# Altium integrated library NXP LPC2000.IntLib: 82 symbols (part 3 of 6)
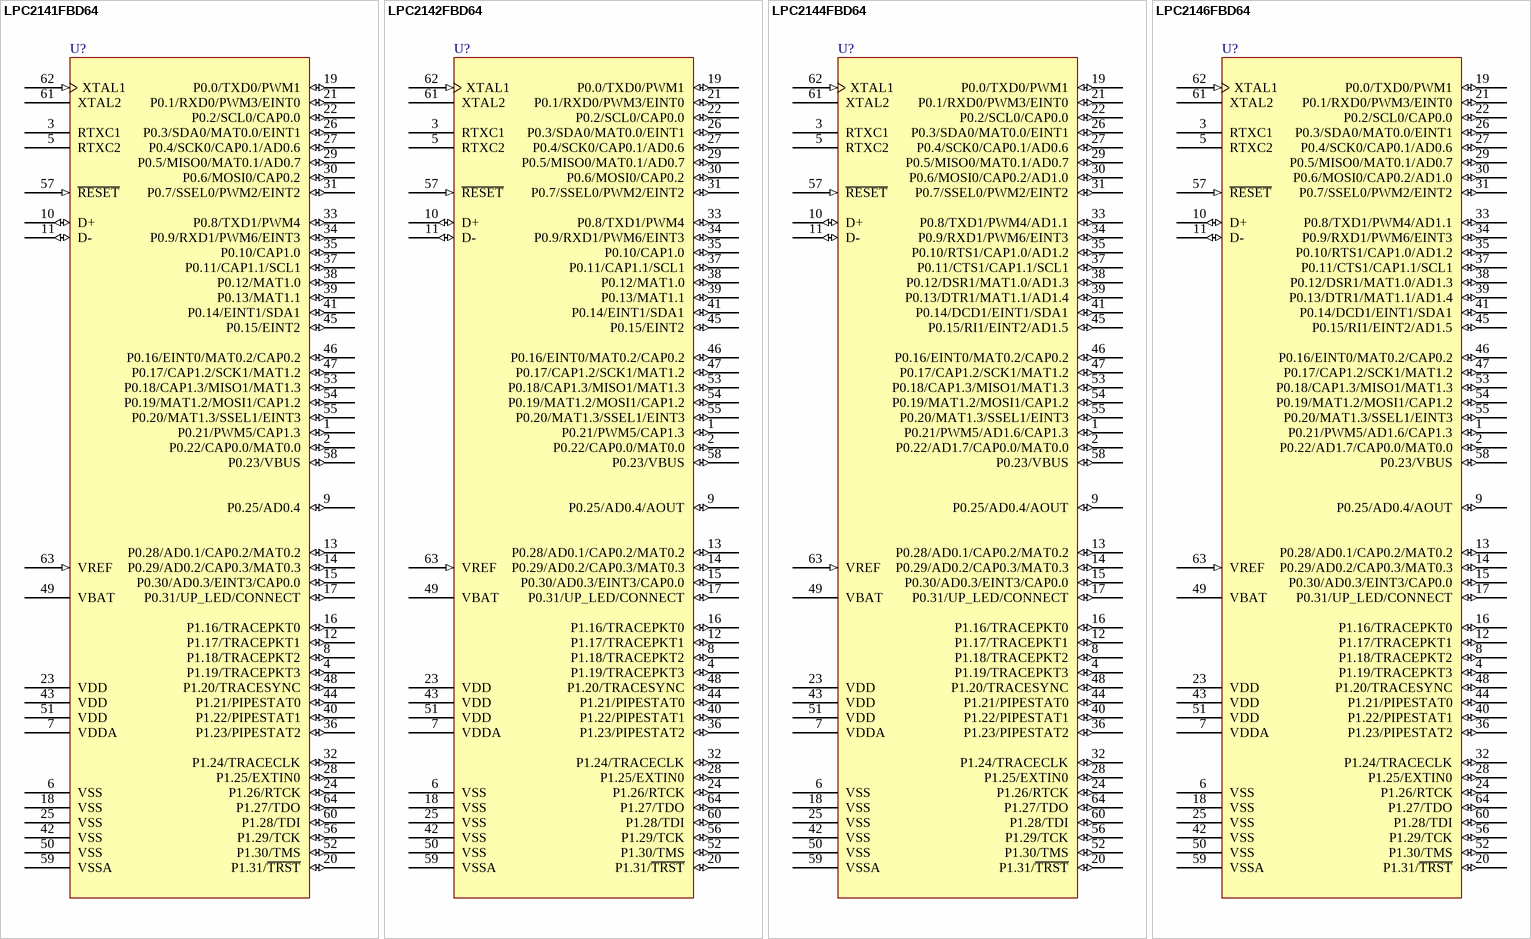
[diagram p31: symbols LPC2141FBD64 to LPC2146FBD64]

## LPC2142FBD64
designator U?
ARM7 16/32-Bit Microcontroller, 64KB Flash, 16KB RAM, 2KB USB RAM, 64-Lead LQFP; Code_IEC: 136E10; Published: 31-Jul-2006; DatasheetVersion: rev.02, Aug-2006; PackageVersion: Feb-2003; PackageReference: SOT314-2; Publisher: Altium Limited; PackageDescription: 64-Pin Plastic Low Profile Quad Flat Pack; Code_JEDEC: MS-026; ComponentLink1Description: Manufacturer Link; ComponentLink1URL: http://www.nxp.com/; ComponentLink2Description: Datasheet; ComponentLink2URL: http://www.standardics.nxp.com/products/lpc2000/datasheet/lpc2141.lpc2142.lpc2144.lpc2146.lpc2148.pdf
footprint SOT314-2_N (Thin QFP, 64-Leads, Body 10x10mm, Pitch 0.5mm, IPC Medium Density)
footprint SOT314-2_L (Thin QFP, 64-Leads, Body 10x10mm, Pitch 0.5mm, IPC High Density)
footprint SOT314-2_M (Thin QFP, 64-Leads, Body 10x10mm, Pitch 0.5mm, IPC Low Density)
3D model LPC2142-QFP64 (64-Pin Plastic Low Profile Quad Flat Pack)
pins: 1 P0.21/PWM5/CAP1.3 (io), 2 P0.22/CAP0.0/MAT0.0 (io), 3 RTXC1, 4 P1.19/TRACEPKT3 (io), 5 RTXC2, 6 VSS (power), 7 VDDA (power), 8 P1.18/TRACEPKT2 (io), 9 P0.25/AD0.4/AOUT (io), 10 D+ (io), 11 D- (io), 12 P1.17/TRACEPKT1 (io), 13 P0.28/AD0.1/CAP0.2/MAT0.2 (io), 14 P0.29/AD0.2/CAP0.3/MAT0.3 (io), 15 P0.30/AD0.3/EINT3/CAP0.0 (io), 16 P1.16/TRACEPKT0 (io), 17 P0.31/UP_LED/CONNECT (io), 18 VSS (power), 19 P0.0/TXD0/PWM1 (io), 20 P1.31/~{TRST} (io), 21 P0.1/RXD0/PWM3/EINT0 (io), 22 P0.2/SCL0/CAP0.0 (io), 23 VDD (power), 24 P1.26/RTCK (io), 25 VSS (power), 26 P0.3/SDA0/MAT0.0/EINT1 (io), 27 P0.4/SCK0/CAP0.1/AD0.6 (io), 28 P1.25/EXTIN0 (io), 29 P0.5/MISO0/MAT0.1/AD0.7 (io), 30 P0.6/MOSI0/CAP0.2 (io), 31 P0.7/SSEL0/PWM2/EINT2 (io), 32 P1.24/TRACECLK (io), 33 P0.8/TXD1/PWM4 (io), 34 P0.9/RXD1/PWM6/EINT3 (io), 35 P0.10/CAP1.0 (io), 36 P1.23/PIPESTAT2 (io), 37 P0.11/CAP1.1/SCL1 (io), 38 P0.12/MAT1.0 (io), 39 P0.13/MAT1.1 (io), 40 P1.22/PIPESTAT1 (io), 41 P0.14/EINT1/SDA1 (io), 42 VSS (power), 43 VDD (power), 44 P1.21/PIPESTAT0 (io), 45 P0.15/EINT2 (io), 46 P0.16/EINT0/MAT0.2/CAP0.2 (io), 47 P0.17/CAP1.2/SCK1/MAT1.2 (io), 48 P1.20/TRACESYNC (io), 49 VBAT (power), 50 VSS (power), 51 VDD (power), 52 P1.30/TMS (io), 53 P0.18/CAP1.3/MISO1/MAT1.3 (io), 54 P0.19/MAT1.2/MOSI1/CAP1.2 (io), 55 P0.20/MAT1.3/SSEL1/EINT3 (io), 56 P1.29/TCK (io), 57 ~{RESET} (in), 58 P0.23/VBUS (io), 59 VSSA (power), 60 P1.28/TDI (io), 61 XTAL2, 62 XTAL1 (in), 63 VREF (in), 64 P1.27/TDO (io)

## LPC2144FBD64
designator U?
ARM7 16/32-Bit Microcontroller, 128KB Flash, 16KB RAM, 2KB USB RAM, 64-Lead LQFP; Code_IEC: 136E10; Published: 31-Jul-2006; DatasheetVersion: rev.02, Aug-2006; PackageVersion: Feb-2003; PackageReference: SOT314-2; Publisher: Altium Limited; PackageDescription: 64-Pin Plastic Low Profile Quad Flat Pack; Code_JEDEC: MS-026; ComponentLink1Description: Manufacturer Link; ComponentLink1URL: http://www.nxp.com/; ComponentLink2Description: Datasheet; ComponentLink2URL: http://www.standardics.nxp.com/products/lpc2000/datasheet/lpc2141.lpc2142.lpc2144.lpc2146.lpc2148.pdf
footprint SOT314-2_N (Thin QFP, 64-Leads, Body 10x10mm, Pitch 0.5mm, IPC Medium Density)
footprint SOT314-2_L (Thin QFP, 64-Leads, Body 10x10mm, Pitch 0.5mm, IPC High Density)
footprint SOT314-2_M (Thin QFP, 64-Leads, Body 10x10mm, Pitch 0.5mm, IPC Low Density)
3D model LPC2144-QFP64 (64-Pin Plastic Low Profile Quad Flat Pack)
pins: 1 P0.21/PWM5/AD1.6/CAP1.3 (io), 2 P0.22/AD1.7/CAP0.0/MAT0.0 (io), 3 RTXC1, 4 P1.19/TRACEPKT3 (io), 5 RTXC2, 6 VSS (power), 7 VDDA (power), 8 P1.18/TRACEPKT2 (io), 9 P0.25/AD0.4/AOUT (io), 10 D+ (io), 11 D- (io), 12 P1.17/TRACEPKT1 (io), 13 P0.28/AD0.1/CAP0.2/MAT0.2 (io), 14 P0.29/AD0.2/CAP0.3/MAT0.3 (io), 15 P0.30/AD0.3/EINT3/CAP0.0 (io), 16 P1.16/TRACEPKT0 (io), 17 P0.31/UP_LED/CONNECT (io), 18 VSS (power), 19 P0.0/TXD0/PWM1 (io), 20 P1.31/~{TRST} (io), 21 P0.1/RXD0/PWM3/EINT0 (io), 22 P0.2/SCL0/CAP0.0 (io), 23 VDD (power), 24 P1.26/RTCK (io), 25 VSS (power), 26 P0.3/SDA0/MAT0.0/EINT1 (io), 27 P0.4/SCK0/CAP0.1/AD0.6 (io), 28 P1.25/EXTIN0 (io), 29 P0.5/MISO0/MAT0.1/AD0.7 (io), 30 P0.6/MOSI0/CAP0.2/AD1.0 (io), 31 P0.7/SSEL0/PWM2/EINT2 (io), 32 P1.24/TRACECLK (io), 33 P0.8/TXD1/PWM4/AD1.1 (io), 34 P0.9/RXD1/PWM6/EINT3 (io), 35 P0.10/RTS1/CAP1.0/AD1.2 (io), 36 P1.23/PIPESTAT2 (io), 37 P0.11/CTS1/CAP1.1/SCL1 (io), 38 P0.12/DSR1/MAT1.0/AD1.3 (io), 39 P0.13/DTR1/MAT1.1/AD1.4 (io), 40 P1.22/PIPESTAT1 (io), 41 P0.14/DCD1/EINT1/SDA1 (io), 42 VSS (power), 43 VDD (power), 44 P1.21/PIPESTAT0 (io), 45 P0.15/RI1/EINT2/AD1.5 (io), 46 P0.16/EINT0/MAT0.2/CAP0.2 (io), 47 P0.17/CAP1.2/SCK1/MAT1.2 (io), 48 P1.20/TRACESYNC (io), 49 VBAT (power), 50 VSS (power), 51 VDD (power), 52 P1.30/TMS (io), 53 P0.18/CAP1.3/MISO1/MAT1.3 (io), 54 P0.19/MAT1.2/MOSI1/CAP1.2 (io), 55 P0.20/MAT1.3/SSEL1/EINT3 (io), 56 P1.29/TCK (io), 57 ~{RESET} (in), 58 P0.23/VBUS (io), 59 VSSA (power), 60 P1.28/TDI (io), 61 XTAL2, 62 XTAL1 (in), 63 VREF (in), 64 P1.27/TDO (io)

## LPC2146FBD64
designator U?
ARM7 16/32-Bit Microcontroller, 256KB Flash, 32KB RAM (+8KB USB DMA shared), 2KB USB RAM, 64-Lead LQFP; Code_IEC: 136E10; Published: 31-Jul-2006; DatasheetVersion: rev.02, Aug-2006; PackageVersion: Feb-2003; PackageReference: SOT314-2; Publisher: Altium Limited; PackageDescription: 64-Pin Plastic Low Profile Quad Flat Pack; Code_JEDEC: MS-026; ComponentLink1Description: Manufacturer Link; ComponentLink1URL: http://www.nxp.com/; ComponentLink2Description: Datasheet; ComponentLink2URL: http://www.standardics.nxp.com/products/lpc2000/datasheet/lpc2141.lpc2142.lpc2144.lpc2146.lpc2148.pdf
footprint SOT314-2_N (Thin QFP, 64-Leads, Body 10x10mm, Pitch 0.5mm, IPC Medium Density)
footprint SOT314-2_L (Thin QFP, 64-Leads, Body 10x10mm, Pitch 0.5mm, IPC High Density)
footprint SOT314-2_M (Thin QFP, 64-Leads, Body 10x10mm, Pitch 0.5mm, IPC Low Density)
3D model LPC2146-QFP64 (64-Pin Plastic Low Profile Quad Flat Pack)
pins: 1 P0.21/PWM5/AD1.6/CAP1.3 (io), 2 P0.22/AD1.7/CAP0.0/MAT0.0 (io), 3 RTXC1, 4 P1.19/TRACEPKT3 (io), 5 RTXC2, 6 VSS (power), 7 VDDA (power), 8 P1.18/TRACEPKT2 (io), 9 P0.25/AD0.4/AOUT (io), 10 D+ (io), 11 D- (io), 12 P1.17/TRACEPKT1 (io), 13 P0.28/AD0.1/CAP0.2/MAT0.2 (io), 14 P0.29/AD0.2/CAP0.3/MAT0.3 (io), 15 P0.30/AD0.3/EINT3/CAP0.0 (io), 16 P1.16/TRACEPKT0 (io), 17 P0.31/UP_LED/CONNECT (io), 18 VSS (power), 19 P0.0/TXD0/PWM1 (io), 20 P1.31/~{TRST} (io), 21 P0.1/RXD0/PWM3/EINT0 (io), 22 P0.2/SCL0/CAP0.0 (io), 23 VDD (power), 24 P1.26/RTCK (io), 25 VSS (power), 26 P0.3/SDA0/MAT0.0/EINT1 (io), 27 P0.4/SCK0/CAP0.1/AD0.6 (io), 28 P1.25/EXTIN0 (io), 29 P0.5/MISO0/MAT0.1/AD0.7 (io), 30 P0.6/MOSI0/CAP0.2/AD1.0 (io), 31 P0.7/SSEL0/PWM2/EINT2 (io), 32 P1.24/TRACECLK (io), 33 P0.8/TXD1/PWM4/AD1.1 (io), 34 P0.9/RXD1/PWM6/EINT3 (io), 35 P0.10/RTS1/CAP1.0/AD1.2 (io), 36 P1.23/PIPESTAT2 (io), 37 P0.11/CTS1/CAP1.1/SCL1 (io), 38 P0.12/DSR1/MAT1.0/AD1.3 (io), 39 P0.13/DTR1/MAT1.1/AD1.4 (io), 40 P1.22/PIPESTAT1 (io), 41 P0.14/DCD1/EINT1/SDA1 (io), 42 VSS (power), 43 VDD (power), 44 P1.21/PIPESTAT0 (io), 45 P0.15/RI1/EINT2/AD1.5 (io), 46 P0.16/EINT0/MAT0.2/CAP0.2 (io), 47 P0.17/CAP1.2/SCK1/MAT1.2 (io), 48 P1.20/TRACESYNC (io), 49 VBAT (power), 50 VSS (power), 51 VDD (power), 52 P1.30/TMS (io), 53 P0.18/CAP1.3/MISO1/MAT1.3 (io), 54 P0.19/MAT1.2/MOSI1/CAP1.2 (io), 55 P0.20/MAT1.3/SSEL1/EINT3 (io), 56 P1.29/TCK (io), 57 ~{RESET} (in), 58 P0.23/VBUS (io), 59 VSSA (power), 60 P1.28/TDI (io), 61 XTAL2, 62 XTAL1 (in), 63 VREF (in), 64 P1.27/TDO (io)

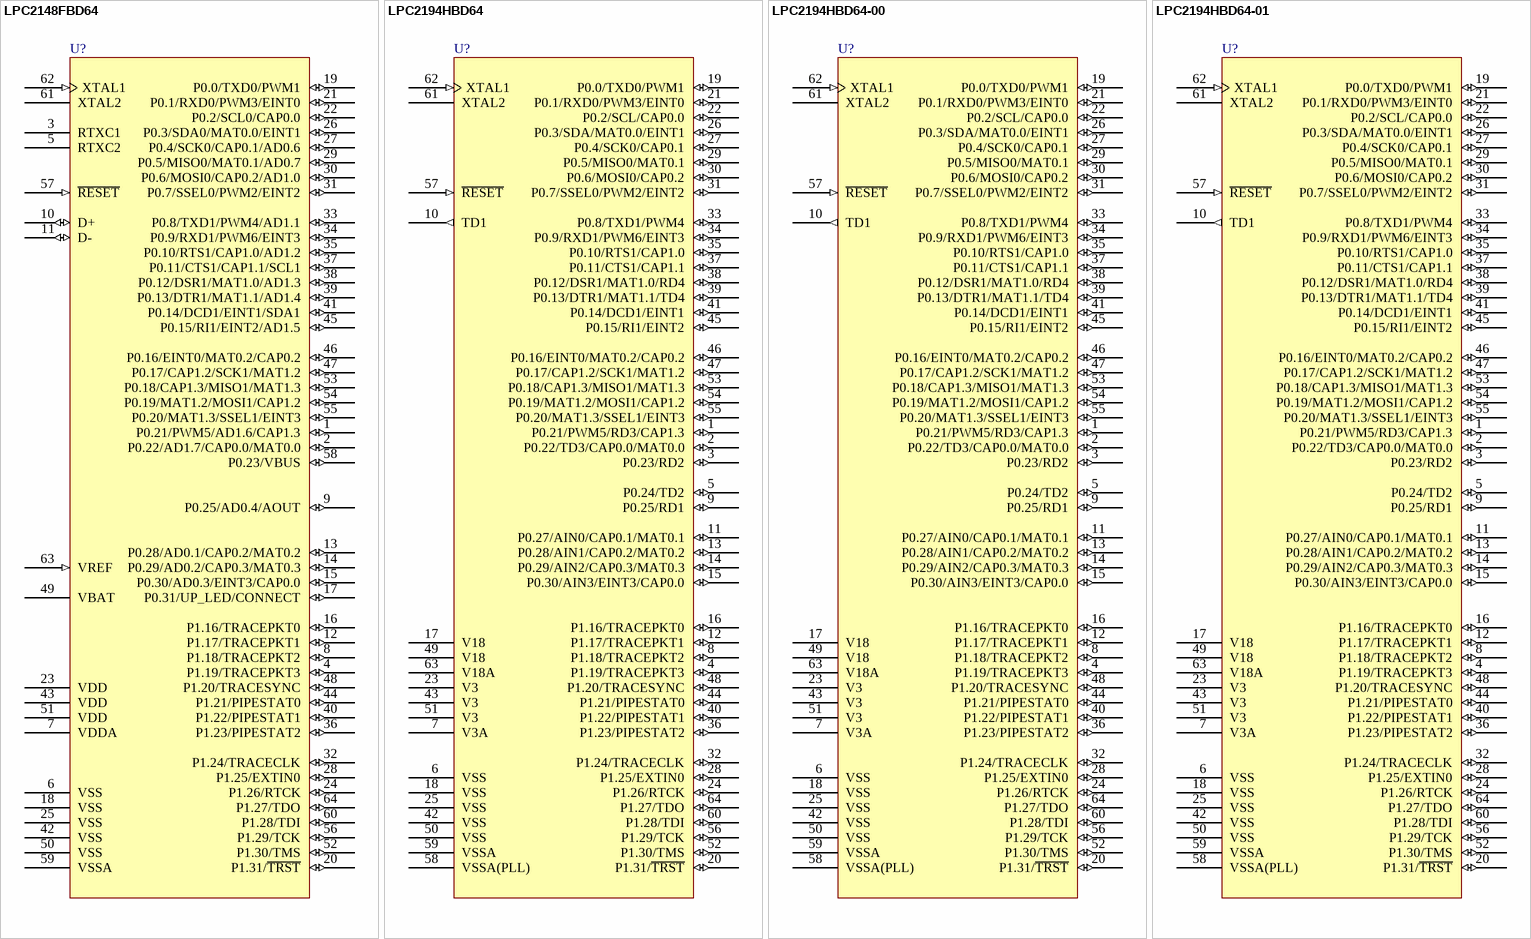
[diagram p10: symbols LPC2148FBD64 to LPC2194HBD64-01]

## LPC2148FBD64
designator U?
ARM7 16/32-Bit Microcontroller, 512KB Flash, 32KB RAM (+8KB USB DMA shared), 2KB USB RAM, 64-Lead LQFP; Code_IEC: 136E10; Published: 31-Jul-2006; DatasheetVersion: rev.02, Aug-2006; PackageVersion: Feb-2003; PackageReference: SOT314-2; Publisher: Altium Limited; PackageDescription: 64-Pin Plastic Low Profile Quad Flat Pack; Code_JEDEC: MS-026; ComponentLink1Description: Manufacturer Link; ComponentLink1URL: http://www.nxp.com/; ComponentLink2Description: Datasheet; ComponentLink2URL: http://www.standardics.nxp.com/products/lpc2000/datasheet/lpc2141.lpc2142.lpc2144.lpc2146.lpc2148.pdf
footprint SOT314-2_N (Thin QFP, 64-Leads, Body 10x10mm, Pitch 0.5mm, IPC Medium Density)
footprint SOT314-2_L (Thin QFP, 64-Leads, Body 10x10mm, Pitch 0.5mm, IPC High Density)
footprint SOT314-2_M (Thin QFP, 64-Leads, Body 10x10mm, Pitch 0.5mm, IPC Low Density)
3D model LPC2148-QFP64 (64-Pin Plastic Low Profile Quad Flat Pack)
pins: 1 P0.21/PWM5/AD1.6/CAP1.3 (io), 2 P0.22/AD1.7/CAP0.0/MAT0.0 (io), 3 RTXC1, 4 P1.19/TRACEPKT3 (io), 5 RTXC2, 6 VSS (power), 7 VDDA (power), 8 P1.18/TRACEPKT2 (io), 9 P0.25/AD0.4/AOUT (io), 10 D+ (io), 11 D- (io), 12 P1.17/TRACEPKT1 (io), 13 P0.28/AD0.1/CAP0.2/MAT0.2 (io), 14 P0.29/AD0.2/CAP0.3/MAT0.3 (io), 15 P0.30/AD0.3/EINT3/CAP0.0 (io), 16 P1.16/TRACEPKT0 (io), 17 P0.31/UP_LED/CONNECT (io), 18 VSS (power), 19 P0.0/TXD0/PWM1 (io), 20 P1.31/~{TRST} (io), 21 P0.1/RXD0/PWM3/EINT0 (io), 22 P0.2/SCL0/CAP0.0 (io), 23 VDD (power), 24 P1.26/RTCK (io), 25 VSS (power), 26 P0.3/SDA0/MAT0.0/EINT1 (io), 27 P0.4/SCK0/CAP0.1/AD0.6 (io), 28 P1.25/EXTIN0 (io), 29 P0.5/MISO0/MAT0.1/AD0.7 (io), 30 P0.6/MOSI0/CAP0.2/AD1.0 (io), 31 P0.7/SSEL0/PWM2/EINT2 (io), 32 P1.24/TRACECLK (io), 33 P0.8/TXD1/PWM4/AD1.1 (io), 34 P0.9/RXD1/PWM6/EINT3 (io), 35 P0.10/RTS1/CAP1.0/AD1.2 (io), 36 P1.23/PIPESTAT2 (io), 37 P0.11/CTS1/CAP1.1/SCL1 (io), 38 P0.12/DSR1/MAT1.0/AD1.3 (io), 39 P0.13/DTR1/MAT1.1/AD1.4 (io), 40 P1.22/PIPESTAT1 (io), 41 P0.14/DCD1/EINT1/SDA1 (io), 42 VSS (power), 43 VDD (power), 44 P1.21/PIPESTAT0 (io), 45 P0.15/RI1/EINT2/AD1.5 (io), 46 P0.16/EINT0/MAT0.2/CAP0.2 (io), 47 P0.17/CAP1.2/SCK1/MAT1.2 (io), 48 P1.20/TRACESYNC (io), 49 VBAT (power), 50 VSS (power), 51 VDD (power), 52 P1.30/TMS (io), 53 P0.18/CAP1.3/MISO1/MAT1.3 (io), 54 P0.19/MAT1.2/MOSI1/CAP1.2 (io), 55 P0.20/MAT1.3/SSEL1/EINT3 (io), 56 P1.29/TCK (io), 57 ~{RESET} (in), 58 P0.23/VBUS (io), 59 VSSA (power), 60 P1.28/TDI (io), 61 XTAL2, 62 XTAL1 (in), 63 VREF (in), 64 P1.27/TDO (io)

## LPC2194HBD64
designator U?
ARM7 16/32-Bit Microcontroller, 256KB Flash, 16KB RAM, 4 Channel CAN, 64-Lead LQFP; Code_IEC: 136E10; Published: 31-Jul-2006; DatasheetVersion: rev.05, Jul-2007; PackageVersion: Feb-2003; PackageReference: SOT314-2; Publisher: Altium Limited; PackageDescription: 64-Pin Plastic Low Profile Quad Flat Pack; Code_JEDEC: MS-026; ComponentLink1Description: Manufacturer Link; ComponentLink1URL: http://www.nxp.com/; ComponentLink2Description: Datasheet; ComponentLink2URL: http://www.standardics.nxp.com/products/lpc2000/datasheet/lpc2194.pdf
footprint SOT314-2_N (Thin QFP, 64-Leads, Body 10x10mm, Pitch 0.5mm, IPC Medium Density)
footprint SOT314-2_L (Thin QFP, 64-Leads, Body 10x10mm, Pitch 0.5mm, IPC High Density)
footprint SOT314-2_M (Thin QFP, 64-Leads, Body 10x10mm, Pitch 0.5mm, IPC Low Density)
3D model LPC2194-QFP64 (64-Pin Plastic Low Profile Quad Flat Pack)
pins: 1 P0.21/PWM5/RD3/CAP1.3 (io), 2 P0.22/TD3/CAP0.0/MAT0.0 (io), 3 P0.23/RD2 (io), 4 P1.19/TRACEPKT3 (io), 5 P0.24/TD2 (io), 6 VSS (power), 7 V3A (power), 8 P1.18/TRACEPKT2 (io), 9 P0.25/RD1 (io), 10 TD1 (out), 11 P0.27/AIN0/CAP0.1/MAT0.1 (io), 12 P1.17/TRACEPKT1 (io), 13 P0.28/AIN1/CAP0.2/MAT0.2 (io), 14 P0.29/AIN2/CAP0.3/MAT0.3 (io), 15 P0.30/AIN3/EINT3/CAP0.0 (io), 16 P1.16/TRACEPKT0 (io), 17 V18 (power), 18 VSS (power), 19 P0.0/TXD0/PWM1 (io), 20 P1.31/~{TRST} (io), 21 P0.1/RXD0/PWM3/EINT0 (io), 22 P0.2/SCL/CAP0.0 (io), 23 V3 (power), 24 P1.26/RTCK (io), 25 VSS (power), 26 P0.3/SDA/MAT0.0/EINT1 (io), 27 P0.4/SCK0/CAP0.1 (io), 28 P1.25/EXTIN0 (io), 29 P0.5/MISO0/MAT0.1 (io), 30 P0.6/MOSI0/CAP0.2 (io), 31 P0.7/SSEL0/PWM2/EINT2 (io), 32 P1.24/TRACECLK (io), 33 P0.8/TXD1/PWM4 (io), 34 P0.9/RXD1/PWM6/EINT3 (io), 35 P0.10/RTS1/CAP1.0 (io), 36 P1.23/PIPESTAT2 (io), 37 P0.11/CTS1/CAP1.1 (io), 38 P0.12/DSR1/MAT1.0/RD4 (io), 39 P0.13/DTR1/MAT1.1/TD4 (io), 40 P1.22/PIPESTAT1 (io), 41 P0.14/DCD1/EINT1 (io), 42 VSS (power), 43 V3 (power), 44 P1.21/PIPESTAT0 (io), 45 P0.15/RI1/EINT2 (io), 46 P0.16/EINT0/MAT0.2/CAP0.2 (io), 47 P0.17/CAP1.2/SCK1/MAT1.2 (io), 48 P1.20/TRACESYNC (io), 49 V18 (power), 50 VSS (power), 51 V3 (power), 52 P1.30/TMS (io), 53 P0.18/CAP1.3/MISO1/MAT1.3 (io), 54 P0.19/MAT1.2/MOSI1/CAP1.2 (io), 55 P0.20/MAT1.3/SSEL1/EINT3 (io), 56 P1.29/TCK (io), 57 ~{RESET} (in), 58 VSSA(PLL) (power), 59 VSSA (power), 60 P1.28/TDI (io), 61 XTAL2, 62 XTAL1 (in), 63 V18A (power), 64 P1.27/TDO (io)

## LPC2194HBD64-00
designator U?
ARM7 16/32-Bit Microcontroller, 256KB Flash, 16KB RAM, 4 Channel CAN, 64-Lead LQFP; Code_IEC: 136E10; Published: 16-Oct-2006; DatasheetVersion: rev.05, Jul-2007; PackageVersion: Feb-2003; PackageReference: SOT314-2; Publisher: Altium Limited; PackageDescription: 64-Pin Plastic Low Profile Quad Flat Pack; Code_JEDEC: MS-026; ComponentLink1Description: Manufacturer Link; ComponentLink1URL: http://www.nxp.com/; ComponentLink2Description: Datasheet; ComponentLink2URL: http://www.standardics.nxp.com/products/lpc2000/datasheet/lpc2194.pdf
footprint SOT314-2_N (Thin QFP, 64-Leads, Body 10x10mm, Pitch 0.5mm, IPC Medium Density)
footprint SOT314-2_L (Thin QFP, 64-Leads, Body 10x10mm, Pitch 0.5mm, IPC High Density)
footprint SOT314-2_M (Thin QFP, 64-Leads, Body 10x10mm, Pitch 0.5mm, IPC Low Density)
3D model LPC2194-QFP64 (64-Pin Plastic Low Profile Quad Flat Pack)
pins: 1 P0.21/PWM5/RD3/CAP1.3 (io), 2 P0.22/TD3/CAP0.0/MAT0.0 (io), 3 P0.23/RD2 (io), 4 P1.19/TRACEPKT3 (io), 5 P0.24/TD2 (io), 6 VSS (power), 7 V3A (power), 8 P1.18/TRACEPKT2 (io), 9 P0.25/RD1 (io), 10 TD1 (out), 11 P0.27/AIN0/CAP0.1/MAT0.1 (io), 12 P1.17/TRACEPKT1 (io), 13 P0.28/AIN1/CAP0.2/MAT0.2 (io), 14 P0.29/AIN2/CAP0.3/MAT0.3 (io), 15 P0.30/AIN3/EINT3/CAP0.0 (io), 16 P1.16/TRACEPKT0 (io), 17 V18 (power), 18 VSS (power), 19 P0.0/TXD0/PWM1 (io), 20 P1.31/~{TRST} (io), 21 P0.1/RXD0/PWM3/EINT0 (io), 22 P0.2/SCL/CAP0.0 (io), 23 V3 (power), 24 P1.26/RTCK (io), 25 VSS (power), 26 P0.3/SDA/MAT0.0/EINT1 (io), 27 P0.4/SCK0/CAP0.1 (io), 28 P1.25/EXTIN0 (io), 29 P0.5/MISO0/MAT0.1 (io), 30 P0.6/MOSI0/CAP0.2 (io), 31 P0.7/SSEL0/PWM2/EINT2 (io), 32 P1.24/TRACECLK (io), 33 P0.8/TXD1/PWM4 (io), 34 P0.9/RXD1/PWM6/EINT3 (io), 35 P0.10/RTS1/CAP1.0 (io), 36 P1.23/PIPESTAT2 (io), 37 P0.11/CTS1/CAP1.1 (io), 38 P0.12/DSR1/MAT1.0/RD4 (io), 39 P0.13/DTR1/MAT1.1/TD4 (io), 40 P1.22/PIPESTAT1 (io), 41 P0.14/DCD1/EINT1 (io), 42 VSS (power), 43 V3 (power), 44 P1.21/PIPESTAT0 (io), 45 P0.15/RI1/EINT2 (io), 46 P0.16/EINT0/MAT0.2/CAP0.2 (io), 47 P0.17/CAP1.2/SCK1/MAT1.2 (io), 48 P1.20/TRACESYNC (io), 49 V18 (power), 50 VSS (power), 51 V3 (power), 52 P1.30/TMS (io), 53 P0.18/CAP1.3/MISO1/MAT1.3 (io), 54 P0.19/MAT1.2/MOSI1/CAP1.2 (io), 55 P0.20/MAT1.3/SSEL1/EINT3 (io), 56 P1.29/TCK (io), 57 ~{RESET} (in), 58 VSSA(PLL) (power), 59 VSSA (power), 60 P1.28/TDI (io), 61 XTAL2, 62 XTAL1 (in), 63 V18A (power), 64 P1.27/TDO (io)

## LPC2194HBD64-01
designator U?
ARM7 16/32-Bit Microcontroller, 256KB Flash, 16KB RAM, 4 Channel CAN, Fast GPIO, 64-Lead LQFP; Code_IEC: 136E10; Published: 17-Aug-2007; DatasheetVersion: rev.05, Jul-2007; PackageVersion: Feb-2003; PackageReference: SOT314-2; Publisher: Altium Limited; PackageDescription: 64-Pin Plastic Low Profile Quad Flat Pack; Code_JEDEC: MS-026; ComponentLink1Description: Manufacturer Link; ComponentLink1URL: http://www.nxp.com/; ComponentLink2Description: Datasheet; ComponentLink2URL: http://www.standardics.nxp.com/products/lpc2000/datasheet/lpc2194.pdf
footprint SOT314-2_N (Thin QFP, 64-Leads, Body 10x10mm, Pitch 0.5mm, IPC Medium Density)
footprint SOT314-2_L (Thin QFP, 64-Leads, Body 10x10mm, Pitch 0.5mm, IPC High Density)
footprint SOT314-2_M (Thin QFP, 64-Leads, Body 10x10mm, Pitch 0.5mm, IPC Low Density)
3D model LPC2194-QFP64 (64-Pin Plastic Low Profile Quad Flat Pack)
pins: 1 P0.21/PWM5/RD3/CAP1.3 (io), 2 P0.22/TD3/CAP0.0/MAT0.0 (io), 3 P0.23/RD2 (io), 4 P1.19/TRACEPKT3 (io), 5 P0.24/TD2 (io), 6 VSS (power), 7 V3A (power), 8 P1.18/TRACEPKT2 (io), 9 P0.25/RD1 (io), 10 TD1 (out), 11 P0.27/AIN0/CAP0.1/MAT0.1 (io), 12 P1.17/TRACEPKT1 (io), 13 P0.28/AIN1/CAP0.2/MAT0.2 (io), 14 P0.29/AIN2/CAP0.3/MAT0.3 (io), 15 P0.30/AIN3/EINT3/CAP0.0 (io), 16 P1.16/TRACEPKT0 (io), 17 V18 (power), 18 VSS (power), 19 P0.0/TXD0/PWM1 (io), 20 P1.31/~{TRST} (io), 21 P0.1/RXD0/PWM3/EINT0 (io), 22 P0.2/SCL/CAP0.0 (io), 23 V3 (power), 24 P1.26/RTCK (io), 25 VSS (power), 26 P0.3/SDA/MAT0.0/EINT1 (io), 27 P0.4/SCK0/CAP0.1 (io), 28 P1.25/EXTIN0 (io), 29 P0.5/MISO0/MAT0.1 (io), 30 P0.6/MOSI0/CAP0.2 (io), 31 P0.7/SSEL0/PWM2/EINT2 (io), 32 P1.24/TRACECLK (io), 33 P0.8/TXD1/PWM4 (io), 34 P0.9/RXD1/PWM6/EINT3 (io), 35 P0.10/RTS1/CAP1.0 (io), 36 P1.23/PIPESTAT2 (io), 37 P0.11/CTS1/CAP1.1 (io), 38 P0.12/DSR1/MAT1.0/RD4 (io), 39 P0.13/DTR1/MAT1.1/TD4 (io), 40 P1.22/PIPESTAT1 (io), 41 P0.14/DCD1/EINT1 (io), 42 VSS (power), 43 V3 (power), 44 P1.21/PIPESTAT0 (io), 45 P0.15/RI1/EINT2 (io), 46 P0.16/EINT0/MAT0.2/CAP0.2 (io), 47 P0.17/CAP1.2/SCK1/MAT1.2 (io), 48 P1.20/TRACESYNC (io), 49 V18 (power), 50 VSS (power), 51 V3 (power), 52 P1.30/TMS (io), 53 P0.18/CAP1.3/MISO1/MAT1.3 (io), 54 P0.19/MAT1.2/MOSI1/CAP1.2 (io), 55 P0.20/MAT1.3/SSEL1/EINT3 (io), 56 P1.29/TCK (io), 57 ~{RESET} (in), 58 VSSA(PLL) (power), 59 VSSA (power), 60 P1.28/TDI (io), 61 XTAL2, 62 XTAL1 (in), 63 V18A (power), 64 P1.27/TDO (io)

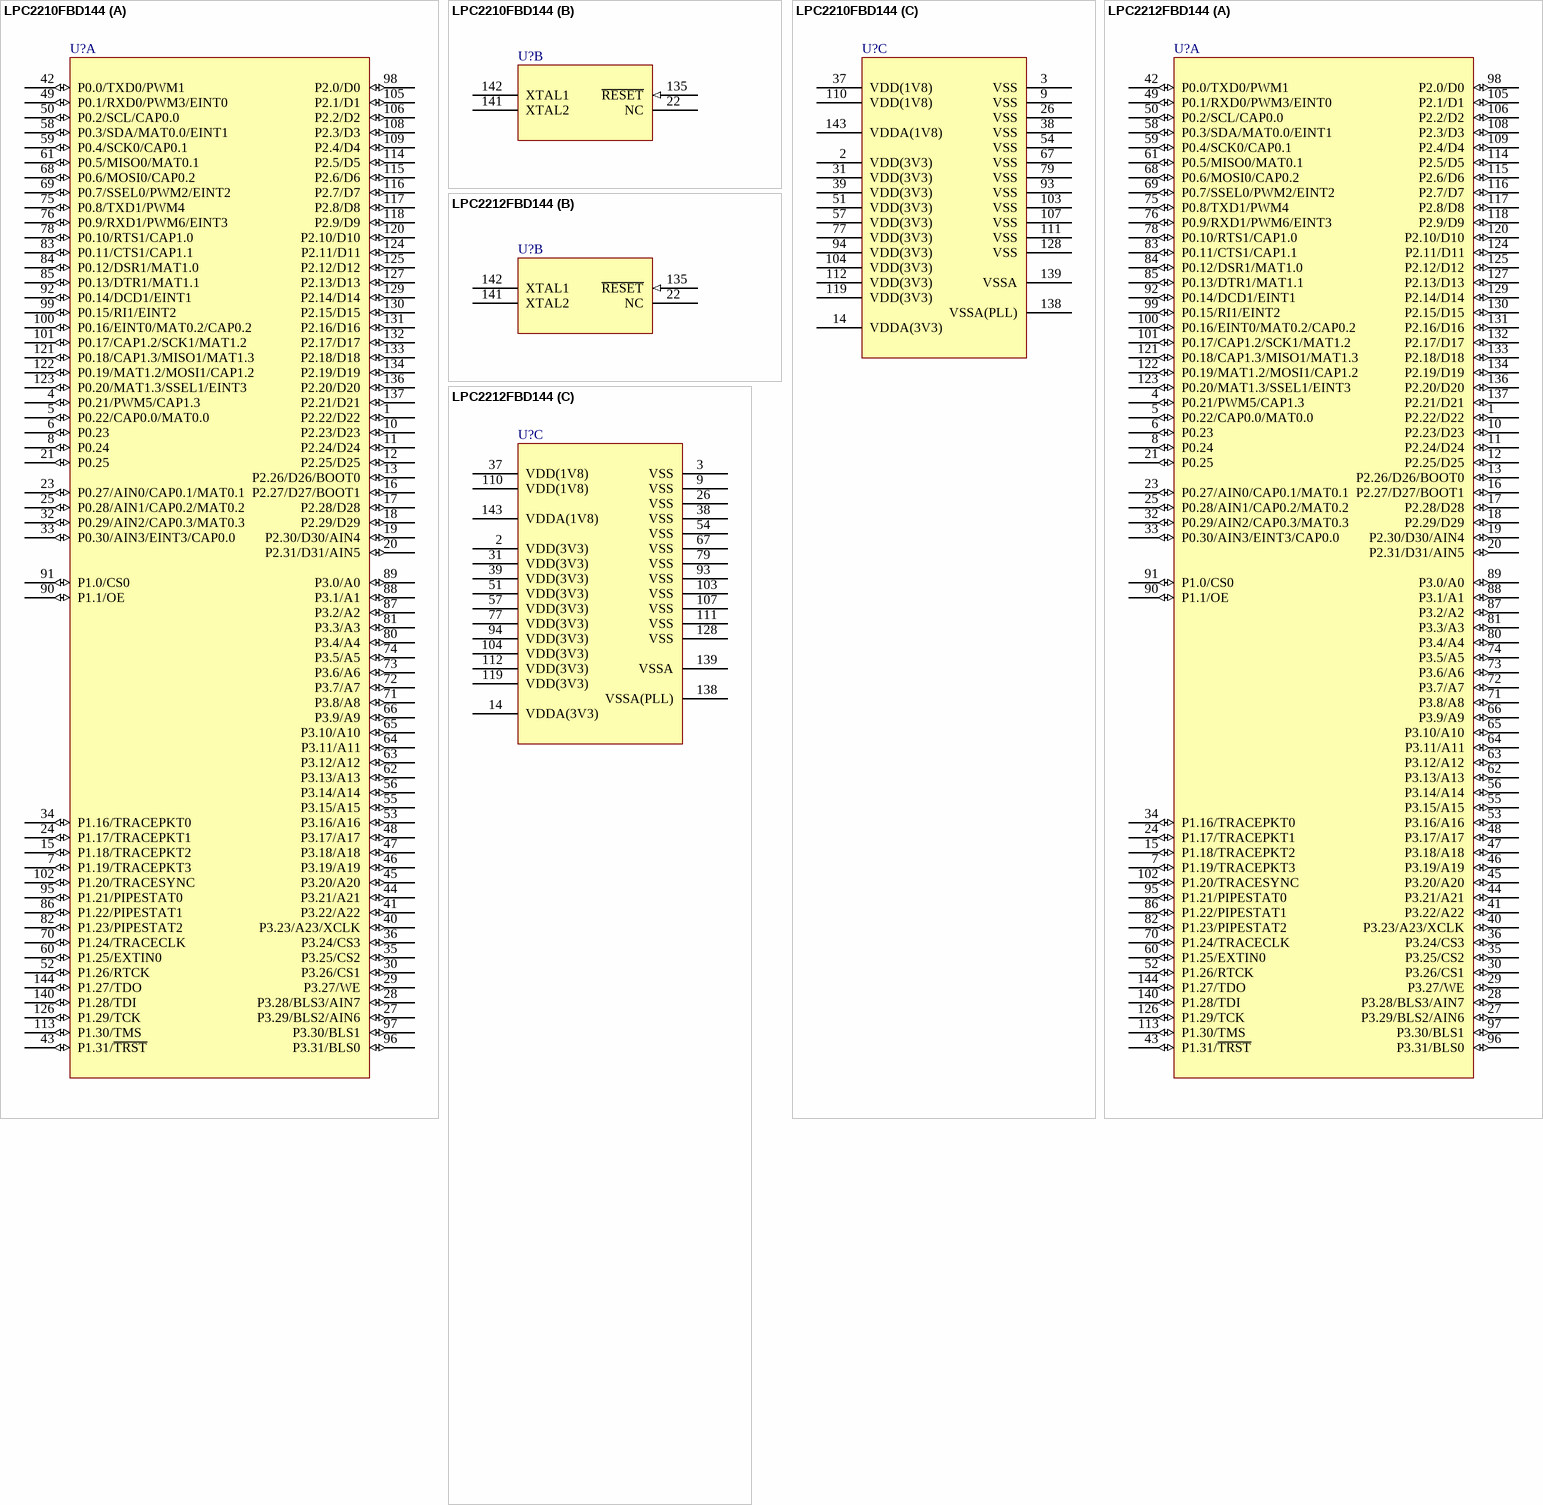
[diagram p11: symbols LPC2210FBD144 to LPC2212FBD144]

## LPC2210FBD144
designator U?
ARM7 16/32-Bit Microcontroller, 16KB RAM, 144-Lead LQFP; Code_IEC: 136E23; Published: 16-Oct-2006; DatasheetVersion: rev.03, Feb-2007; PackageVersion: Feb-2003; PackageReference: SOT486-1; Publisher: Altium Limited; PackageDescription: 144-Pin Plastic Low Profile Quad Flat Pack 0.5 mm Pitch; Code_JEDEC: MS-026; ComponentLink1Description: Manufacturer Link; ComponentLink1URL: http://www.nxp.com/; ComponentLink2Description: Datasheet; ComponentLink2URL: http://www.standardics.nxp.com/products/lpc2000/datasheet/lpc2210.lpc2220.pdf
footprint SOT486-1_N (Thin QFP, 144-Leads, Body 20x20mm, Pitch 0.5mm, IPC Medium Density)
footprint SOT486-1_L (Thin QFP, 144-Leads, Body 20x20mm, Pitch 0.5mm, IPC High Density)
footprint SOT486-1_M (Thin QFP, 144-Leads, Body 20x20mm, Pitch 0.5mm, IPC Low Density)
3D model LPC2210-QFP144 (144-Pin Plastic Low Profile Quad Flat Pack 0.5 mm Pitch)
part A pins: 1 P2.22/D22 (io), 4 P0.21/PWM5/CAP1.3 (io), 5 P0.22/CAP0.0/MAT0.0 (io), 6 P0.23 (io), 7 P1.19/TRACEPKT3 (io), 8 P0.24 (io), 10 P2.23/D23 (io), 11 P2.24/D24 (io), 12 P2.25/D25 (io), 13 P2.26/D26/BOOT0 (io), 15 P1.18/TRACEPKT2 (io), 16 P2.27/D27/BOOT1 (io), 17 P2.28/D28 (io), 18 P2.29/D29 (io), 19 P2.30/D30/AIN4 (io), 20 P2.31/D31/AIN5 (io), 21 P0.25 (io), 23 P0.27/AIN0/CAP0.1/MAT0.1 (io), 24 P1.17/TRACEPKT1 (io), 25 P0.28/AIN1/CAP0.2/MAT0.2 (io), 27 P3.29/BLS2/AIN6 (io), 28 P3.28/BLS3/AIN7 (io), 29 P3.27/WE (io), 30 P3.26/CS1 (io), 32 P0.29/AIN2/CAP0.3/MAT0.3 (io), 33 P0.30/AIN3/EINT3/CAP0.0 (io), 34 P1.16/TRACEPKT0 (io), 35 P3.25/CS2 (io), 36 P3.24/CS3 (io), 40 P3.23/A23/XCLK (io), 41 P3.22/A22 (io), 42 P0.0/TXD0/PWM1 (io), 43 P1.31/~{TRST} (io), 44 P3.21/A21 (io), 45 P3.20/A20 (io), 46 P3.19/A19 (io), 47 P3.18/A18 (io), 48 P3.17/A17 (io), 49 P0.1/RXD0/PWM3/EINT0 (io), 50 P0.2/SCL/CAP0.0 (io), 52 P1.26/RTCK (io), 53 P3.16/A16 (io), 55 P3.15/A15 (io), 56 P3.14/A14 (io), 58 P0.3/SDA/MAT0.0/EINT1 (io), 59 P0.4/SCK0/CAP0.1 (io), 60 P1.25/EXTIN0 (io), 61 P0.5/MISO0/MAT0.1 (io), 62 P3.13/A13 (io), 63 P3.12/A12 (io), 64 P3.11/A11 (io), 65 P3.10/A10 (io), 66 P3.9/A9 (io), 68 P0.6/MOSI0/CAP0.2 (io), 69 P0.7/SSEL0/PWM2/EINT2 (io), 70 P1.24/TRACECLK (io), 71 P3.8/A8 (io), 72 P3.7/A7 (io), 73 P3.6/A6 (io), 74 P3.5/A5 (io), 75 P0.8/TXD1/PWM4 (io), 76 P0.9/RXD1/PWM6/EINT3 (io), 78 P0.10/RTS1/CAP1.0 (io), 80 P3.4/A4 (io), 81 P3.3/A3 (io), 82 P1.23/PIPESTAT2 (io), 83 P0.11/CTS1/CAP1.1 (io), 84 P0.12/DSR1/MAT1.0 (io), 85 P0.13/DTR1/MAT1.1 (io), 86 P1.22/PIPESTAT1 (io), 87 P3.2/A2 (io), 88 P3.1/A1 (io), 89 P3.0/A0 (io), 90 P1.1/OE (io), 91 P1.0/CS0 (io), 92 P0.14/DCD1/EINT1 (io), 95 P1.21/PIPESTAT0 (io), 96 P3.31/BLS0 (io), 97 P3.30/BLS1 (io), 98 P2.0/D0 (io), 99 P0.15/RI1/EINT2 (io), 100 P0.16/EINT0/MAT0.2/CAP0.2 (io), 101 P0.17/CAP1.2/SCK1/MAT1.2 (io), 102 P1.20/TRACESYNC (io), 105 P2.1/D1 (io), 106 P2.2/D2 (io), 108 P2.3/D3 (io), 109 P2.4/D4 (io), 113 P1.30/TMS (io), 114 P2.5/D5 (io), 115 P2.6/D6 (io), 116 P2.7/D7 (io), 117 P2.8/D8 (io), 118 P2.9/D9 (io), 120 P2.10/D10 (io), 121 P0.18/CAP1.3/MISO1/MAT1.3 (io), 122 P0.19/MAT1.2/MOSI1/CAP1.2 (io), 123 P0.20/MAT1.3/SSEL1/EINT3 (io), 124 P2.11/D11 (io), 125 P2.12/D12 (io), 126 P1.29/TCK (io), 127 P2.13/D13 (io), 129 P2.14/D14 (io), 130 P2.15/D15 (io), 131 P2.16/D16 (io), 132 P2.17/D17 (io), 133 P2.18/D18 (io), 134 P2.19/D19 (io), 136 P2.20/D20 (io), 137 P2.21/D21 (io), 140 P1.28/TDI (io), 144 P1.27/TDO (io)
part B pins: 22 NC, 135 ~{RESET} (in), 141 XTAL2, 142 XTAL1
part C pins: 2 VDD(3V3) (power), 3 VSS (power), 9 VSS (power), 14 VDDA(3V3) (power), 26 VSS (power), 31 VDD(3V3) (power), 37 VDD(1V8) (power), 38 VSS (power), 39 VDD(3V3) (power), 51 VDD(3V3) (power), 54 VSS (power), 57 VDD(3V3) (power), 67 VSS (power), 77 VDD(3V3) (power), 79 VSS (power), 93 VSS (power), 94 VDD(3V3) (power), 103 VSS (power), 104 VDD(3V3) (power), 107 VSS (power), 110 VDD(1V8) (power), 111 VSS (power), 112 VDD(3V3) (power), 119 VDD(3V3) (power), 128 VSS (power), 138 VSSA(PLL) (power), 139 VSSA (power), 143 VDDA(1V8) (power)

## LPC2212FBD144
designator U?
ARM7 16/32-Bit Microcontroller, 128KB Flash, 16KB RAM, 144-Lead LQFP; Code_IEC: 136E23; Published: 16-Oct-2006; DatasheetVersion: rev.04, Jul-2007; PackageVersion: Feb-2003; PackageReference: SOT486-1; Publisher: Altium Limited; PackageDescription: 144-Pin Plastic Low Profile Quad Flat Pack 0.5 mm Pitch; Code_JEDEC: MS-026; ComponentLink1Description: Manufacturer Link; ComponentLink1URL: http://www.nxp.com/; ComponentLink2Description: Datasheet; ComponentLink2URL: http://www.standardics.nxp.com/products/lpc2000/datasheet/lpc2212.lpc2214.pdf
footprint SOT486-1_N (Thin QFP, 144-Leads, Body 20x20mm, Pitch 0.5mm, IPC Medium Density)
footprint SOT486-1_L (Thin QFP, 144-Leads, Body 20x20mm, Pitch 0.5mm, IPC High Density)
footprint SOT486-1_M (Thin QFP, 144-Leads, Body 20x20mm, Pitch 0.5mm, IPC Low Density)
3D model LPC2212-QFP144 (144-Pin Plastic Low Profile Quad Flat Pack 0.5 mm Pitch)
part A pins: 1 P2.22/D22 (io), 4 P0.21/PWM5/CAP1.3 (io), 5 P0.22/CAP0.0/MAT0.0 (io), 6 P0.23 (io), 7 P1.19/TRACEPKT3 (io), 8 P0.24 (io), 10 P2.23/D23 (io), 11 P2.24/D24 (io), 12 P2.25/D25 (io), 13 P2.26/D26/BOOT0 (io), 15 P1.18/TRACEPKT2 (io), 16 P2.27/D27/BOOT1 (io), 17 P2.28/D28 (io), 18 P2.29/D29 (io), 19 P2.30/D30/AIN4 (io), 20 P2.31/D31/AIN5 (io), 21 P0.25 (io), 23 P0.27/AIN0/CAP0.1/MAT0.1 (io), 24 P1.17/TRACEPKT1 (io), 25 P0.28/AIN1/CAP0.2/MAT0.2 (io), 27 P3.29/BLS2/AIN6 (io), 28 P3.28/BLS3/AIN7 (io), 29 P3.27/WE (io), 30 P3.26/CS1 (io), 32 P0.29/AIN2/CAP0.3/MAT0.3 (io), 33 P0.30/AIN3/EINT3/CAP0.0 (io), 34 P1.16/TRACEPKT0 (io), 35 P3.25/CS2 (io), 36 P3.24/CS3 (io), 40 P3.23/A23/XCLK (io), 41 P3.22/A22 (io), 42 P0.0/TXD0/PWM1 (io), 43 P1.31/~{TRST} (io), 44 P3.21/A21 (io), 45 P3.20/A20 (io), 46 P3.19/A19 (io), 47 P3.18/A18 (io), 48 P3.17/A17 (io), 49 P0.1/RXD0/PWM3/EINT0 (io), 50 P0.2/SCL/CAP0.0 (io), 52 P1.26/RTCK (io), 53 P3.16/A16 (io), 55 P3.15/A15 (io), 56 P3.14/A14 (io), 58 P0.3/SDA/MAT0.0/EINT1 (io), 59 P0.4/SCK0/CAP0.1 (io), 60 P1.25/EXTIN0 (io), 61 P0.5/MISO0/MAT0.1 (io), 62 P3.13/A13 (io), 63 P3.12/A12 (io), 64 P3.11/A11 (io), 65 P3.10/A10 (io), 66 P3.9/A9 (io), 68 P0.6/MOSI0/CAP0.2 (io), 69 P0.7/SSEL0/PWM2/EINT2 (io), 70 P1.24/TRACECLK (io), 71 P3.8/A8 (io), 72 P3.7/A7 (io), 73 P3.6/A6 (io), 74 P3.5/A5 (io), 75 P0.8/TXD1/PWM4 (io), 76 P0.9/RXD1/PWM6/EINT3 (io), 78 P0.10/RTS1/CAP1.0 (io), 80 P3.4/A4 (io), 81 P3.3/A3 (io), 82 P1.23/PIPESTAT2 (io), 83 P0.11/CTS1/CAP1.1 (io), 84 P0.12/DSR1/MAT1.0 (io), 85 P0.13/DTR1/MAT1.1 (io), 86 P1.22/PIPESTAT1 (io), 87 P3.2/A2 (io), 88 P3.1/A1 (io), 89 P3.0/A0 (io), 90 P1.1/OE (io), 91 P1.0/CS0 (io), 92 P0.14/DCD1/EINT1 (io), 95 P1.21/PIPESTAT0 (io), 96 P3.31/BLS0 (io), 97 P3.30/BLS1 (io), 98 P2.0/D0 (io), 99 P0.15/RI1/EINT2 (io), 100 P0.16/EINT0/MAT0.2/CAP0.2 (io), 101 P0.17/CAP1.2/SCK1/MAT1.2 (io), 102 P1.20/TRACESYNC (io), 105 P2.1/D1 (io), 106 P2.2/D2 (io), 108 P2.3/D3 (io), 109 P2.4/D4 (io), 113 P1.30/TMS (io), 114 P2.5/D5 (io), 115 P2.6/D6 (io), 116 P2.7/D7 (io), 117 P2.8/D8 (io), 118 P2.9/D9 (io), 120 P2.10/D10 (io), 121 P0.18/CAP1.3/MISO1/MAT1.3 (io), 122 P0.19/MAT1.2/MOSI1/CAP1.2 (io), 123 P0.20/MAT1.3/SSEL1/EINT3 (io), 124 P2.11/D11 (io), 125 P2.12/D12 (io), 126 P1.29/TCK (io), 127 P2.13/D13 (io), 129 P2.14/D14 (io), 130 P2.15/D15 (io), 131 P2.16/D16 (io), 132 P2.17/D17 (io), 133 P2.18/D18 (io), 134 P2.19/D19 (io), 136 P2.20/D20 (io), 137 P2.21/D21 (io), 140 P1.28/TDI (io), 144 P1.27/TDO (io)
part B pins: 22 NC, 135 ~{RESET} (in), 141 XTAL2, 142 XTAL1
part C pins: 2 VDD(3V3) (power), 3 VSS (power), 9 VSS (power), 14 VDDA(3V3) (power), 26 VSS (power), 31 VDD(3V3) (power), 37 VDD(1V8) (power), 38 VSS (power), 39 VDD(3V3) (power), 51 VDD(3V3) (power), 54 VSS (power), 57 VDD(3V3) (power), 67 VSS (power), 77 VDD(3V3) (power), 79 VSS (power), 93 VSS (power), 94 VDD(3V3) (power), 103 VSS (power), 104 VDD(3V3) (power), 107 VSS (power), 110 VDD(1V8) (power), 111 VSS (power), 112 VDD(3V3) (power), 119 VDD(3V3) (power), 128 VSS (power), 138 VSSA(PLL) (power), 139 VSSA (power), 143 VDDA(1V8) (power)

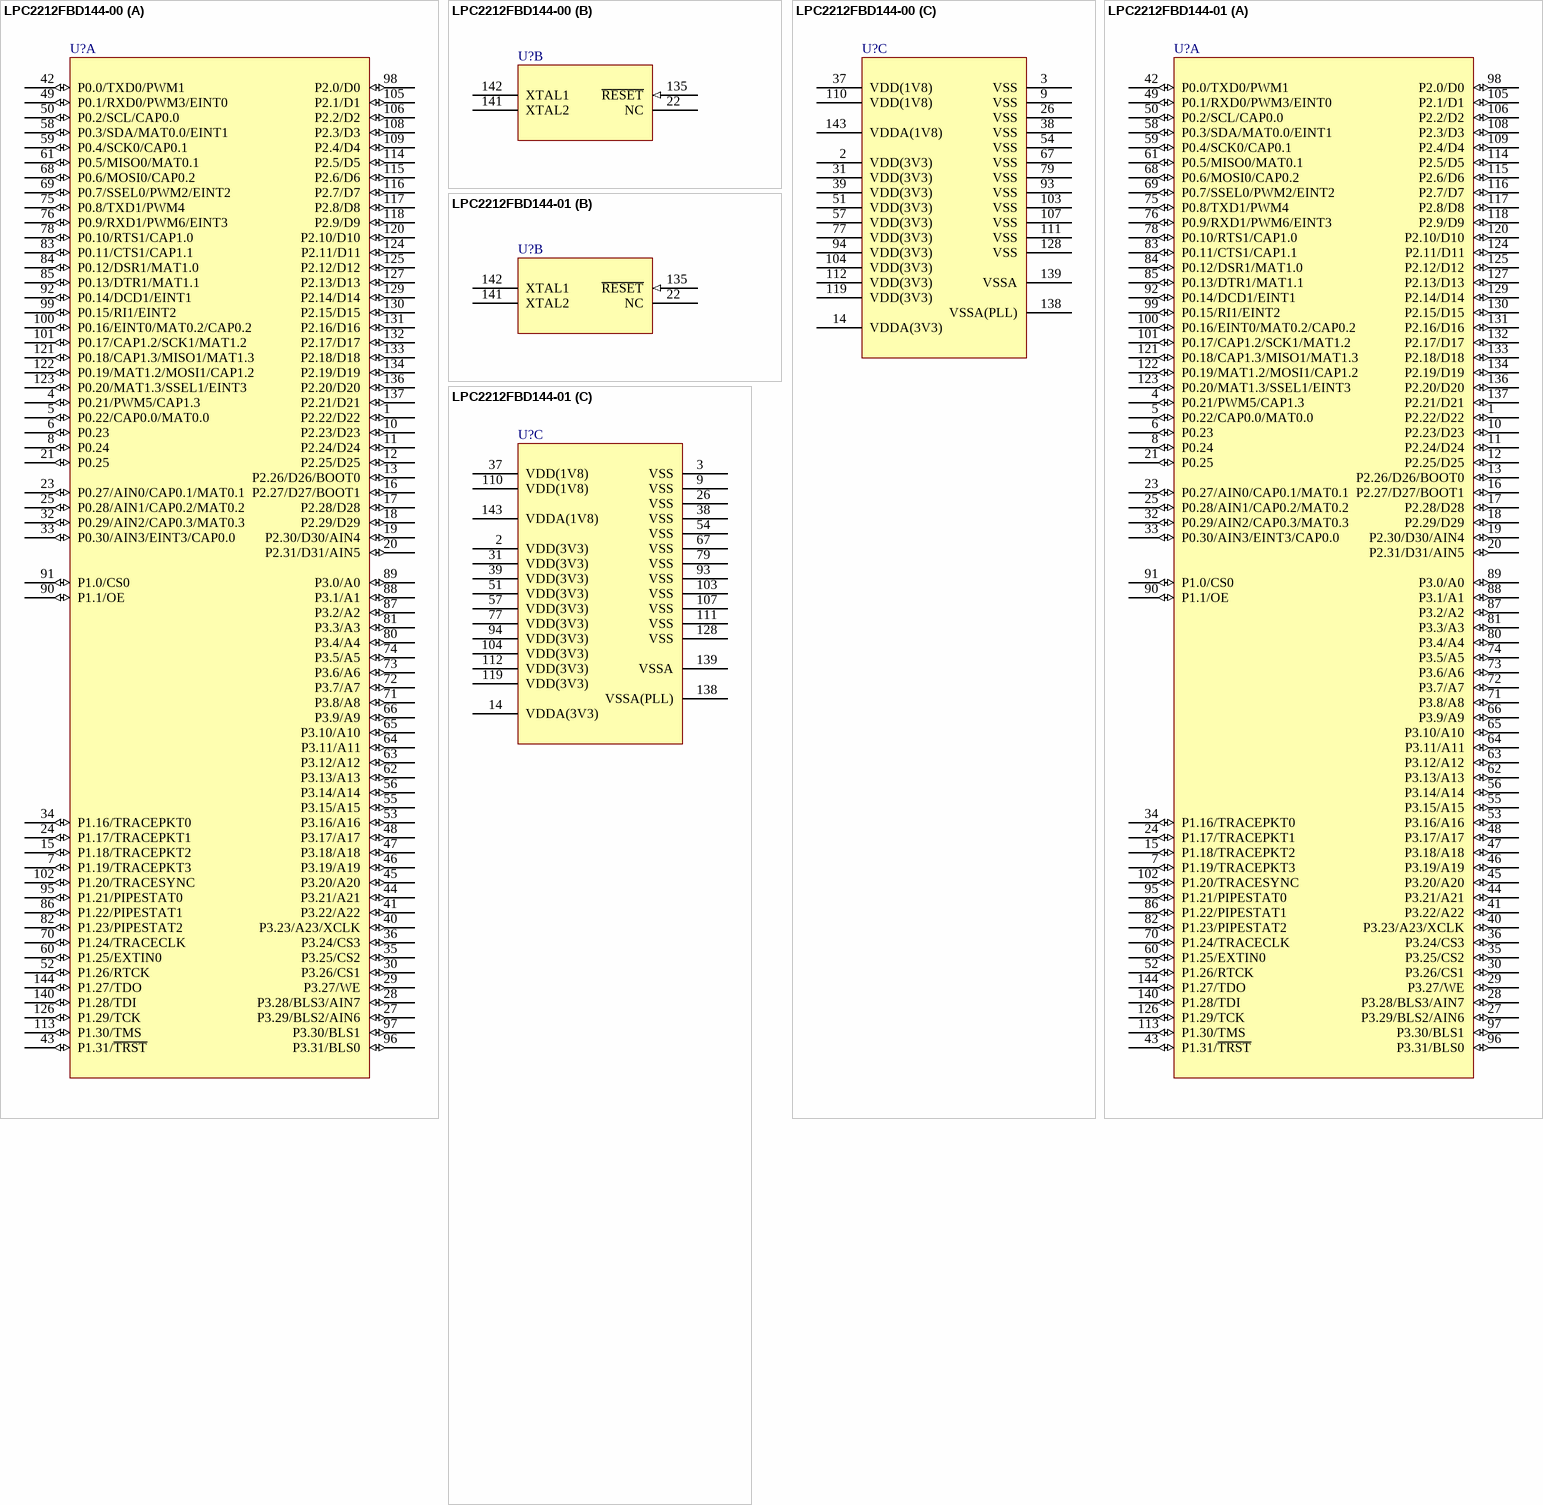
[diagram p12: symbols LPC2212FBD144-00 to LPC2212FBD144-01]

## LPC2212FBD144-00
designator U?
ARM7 16/32-Bit Microcontroller, 128KB Flash, 16KB RAM, 144-Lead LQFP; Code_IEC: 136E23; Published: 16-Oct-2006; DatasheetVersion: rev.04, Jul-2007; PackageVersion: Feb-2003; PackageReference: SOT486-1; Publisher: Altium Limited; PackageDescription: 144-Pin Plastic Low Profile Quad Flat Pack 0.5 mm Pitch; Code_JEDEC: MS-026; ComponentLink1Description: Manufacturer Link; ComponentLink1URL: http://www.nxp.com/; ComponentLink2Description: Datasheet; ComponentLink2URL: http://www.standardics.nxp.com/products/lpc2000/datasheet/lpc2212.lpc2214.pdf
footprint SOT486-1_N (Thin QFP, 144-Leads, Body 20x20mm, Pitch 0.5mm, IPC Medium Density)
footprint SOT486-1_L (Thin QFP, 144-Leads, Body 20x20mm, Pitch 0.5mm, IPC High Density)
footprint SOT486-1_M (Thin QFP, 144-Leads, Body 20x20mm, Pitch 0.5mm, IPC Low Density)
3D model LPC2212-QFP144 (144-Pin Plastic Low Profile Quad Flat Pack 0.5 mm Pitch)
part A pins: 1 P2.22/D22 (io), 4 P0.21/PWM5/CAP1.3 (io), 5 P0.22/CAP0.0/MAT0.0 (io), 6 P0.23 (io), 7 P1.19/TRACEPKT3 (io), 8 P0.24 (io), 10 P2.23/D23 (io), 11 P2.24/D24 (io), 12 P2.25/D25 (io), 13 P2.26/D26/BOOT0 (io), 15 P1.18/TRACEPKT2 (io), 16 P2.27/D27/BOOT1 (io), 17 P2.28/D28 (io), 18 P2.29/D29 (io), 19 P2.30/D30/AIN4 (io), 20 P2.31/D31/AIN5 (io), 21 P0.25 (io), 23 P0.27/AIN0/CAP0.1/MAT0.1 (io), 24 P1.17/TRACEPKT1 (io), 25 P0.28/AIN1/CAP0.2/MAT0.2 (io), 27 P3.29/BLS2/AIN6 (io), 28 P3.28/BLS3/AIN7 (io), 29 P3.27/WE (io), 30 P3.26/CS1 (io), 32 P0.29/AIN2/CAP0.3/MAT0.3 (io), 33 P0.30/AIN3/EINT3/CAP0.0 (io), 34 P1.16/TRACEPKT0 (io), 35 P3.25/CS2 (io), 36 P3.24/CS3 (io), 40 P3.23/A23/XCLK (io), 41 P3.22/A22 (io), 42 P0.0/TXD0/PWM1 (io), 43 P1.31/~{TRST} (io), 44 P3.21/A21 (io), 45 P3.20/A20 (io), 46 P3.19/A19 (io), 47 P3.18/A18 (io), 48 P3.17/A17 (io), 49 P0.1/RXD0/PWM3/EINT0 (io), 50 P0.2/SCL/CAP0.0 (io), 52 P1.26/RTCK (io), 53 P3.16/A16 (io), 55 P3.15/A15 (io), 56 P3.14/A14 (io), 58 P0.3/SDA/MAT0.0/EINT1 (io), 59 P0.4/SCK0/CAP0.1 (io), 60 P1.25/EXTIN0 (io), 61 P0.5/MISO0/MAT0.1 (io), 62 P3.13/A13 (io), 63 P3.12/A12 (io), 64 P3.11/A11 (io), 65 P3.10/A10 (io), 66 P3.9/A9 (io), 68 P0.6/MOSI0/CAP0.2 (io), 69 P0.7/SSEL0/PWM2/EINT2 (io), 70 P1.24/TRACECLK (io), 71 P3.8/A8 (io), 72 P3.7/A7 (io), 73 P3.6/A6 (io), 74 P3.5/A5 (io), 75 P0.8/TXD1/PWM4 (io), 76 P0.9/RXD1/PWM6/EINT3 (io), 78 P0.10/RTS1/CAP1.0 (io), 80 P3.4/A4 (io), 81 P3.3/A3 (io), 82 P1.23/PIPESTAT2 (io), 83 P0.11/CTS1/CAP1.1 (io), 84 P0.12/DSR1/MAT1.0 (io), 85 P0.13/DTR1/MAT1.1 (io), 86 P1.22/PIPESTAT1 (io), 87 P3.2/A2 (io), 88 P3.1/A1 (io), 89 P3.0/A0 (io), 90 P1.1/OE (io), 91 P1.0/CS0 (io), 92 P0.14/DCD1/EINT1 (io), 95 P1.21/PIPESTAT0 (io), 96 P3.31/BLS0 (io), 97 P3.30/BLS1 (io), 98 P2.0/D0 (io), 99 P0.15/RI1/EINT2 (io), 100 P0.16/EINT0/MAT0.2/CAP0.2 (io), 101 P0.17/CAP1.2/SCK1/MAT1.2 (io), 102 P1.20/TRACESYNC (io), 105 P2.1/D1 (io), 106 P2.2/D2 (io), 108 P2.3/D3 (io), 109 P2.4/D4 (io), 113 P1.30/TMS (io), 114 P2.5/D5 (io), 115 P2.6/D6 (io), 116 P2.7/D7 (io), 117 P2.8/D8 (io), 118 P2.9/D9 (io), 120 P2.10/D10 (io), 121 P0.18/CAP1.3/MISO1/MAT1.3 (io), 122 P0.19/MAT1.2/MOSI1/CAP1.2 (io), 123 P0.20/MAT1.3/SSEL1/EINT3 (io), 124 P2.11/D11 (io), 125 P2.12/D12 (io), 126 P1.29/TCK (io), 127 P2.13/D13 (io), 129 P2.14/D14 (io), 130 P2.15/D15 (io), 131 P2.16/D16 (io), 132 P2.17/D17 (io), 133 P2.18/D18 (io), 134 P2.19/D19 (io), 136 P2.20/D20 (io), 137 P2.21/D21 (io), 140 P1.28/TDI (io), 144 P1.27/TDO (io)
part B pins: 22 NC, 135 ~{RESET} (in), 141 XTAL2, 142 XTAL1
part C pins: 2 VDD(3V3) (power), 3 VSS (power), 9 VSS (power), 14 VDDA(3V3) (power), 26 VSS (power), 31 VDD(3V3) (power), 37 VDD(1V8) (power), 38 VSS (power), 39 VDD(3V3) (power), 51 VDD(3V3) (power), 54 VSS (power), 57 VDD(3V3) (power), 67 VSS (power), 77 VDD(3V3) (power), 79 VSS (power), 93 VSS (power), 94 VDD(3V3) (power), 103 VSS (power), 104 VDD(3V3) (power), 107 VSS (power), 110 VDD(1V8) (power), 111 VSS (power), 112 VDD(3V3) (power), 119 VDD(3V3) (power), 128 VSS (power), 138 VSSA(PLL) (power), 139 VSSA (power), 143 VDDA(1V8) (power)

## LPC2212FBD144-01
designator U?
ARM7 16/32-Bit Microcontroller, 128KB Flash, 16KB RAM, Fast GPIO/SSP/Enhanced UART, ADC, Timer, 144-Lead LQFP; Code_IEC: 136E23; Published: 17-Aug-2007; DatasheetVersion: rev.04, Jul-2007; PackageVersion: Feb-2003; PackageReference: SOT486-1; Publisher: Altium Limited; PackageDescription: 144-Pin Plastic Low Profile Quad Flat Pack 0.5 mm Pitch; Code_JEDEC: MS-026; ComponentLink1Description: Manufacturer Link; ComponentLink1URL: http://www.nxp.com/; ComponentLink2Description: Datasheet; ComponentLink2URL: http://www.standardics.nxp.com/products/lpc2000/datasheet/lpc2212.lpc2214.pdf
footprint SOT486-1_N (Thin QFP, 144-Leads, Body 20x20mm, Pitch 0.5mm, IPC Medium Density)
footprint SOT486-1_L (Thin QFP, 144-Leads, Body 20x20mm, Pitch 0.5mm, IPC High Density)
footprint SOT486-1_M (Thin QFP, 144-Leads, Body 20x20mm, Pitch 0.5mm, IPC Low Density)
3D model LPC2212-QFP144 (144-Pin Plastic Low Profile Quad Flat Pack 0.5 mm Pitch)
part A pins: 1 P2.22/D22 (io), 4 P0.21/PWM5/CAP1.3 (io), 5 P0.22/CAP0.0/MAT0.0 (io), 6 P0.23 (io), 7 P1.19/TRACEPKT3 (io), 8 P0.24 (io), 10 P2.23/D23 (io), 11 P2.24/D24 (io), 12 P2.25/D25 (io), 13 P2.26/D26/BOOT0 (io), 15 P1.18/TRACEPKT2 (io), 16 P2.27/D27/BOOT1 (io), 17 P2.28/D28 (io), 18 P2.29/D29 (io), 19 P2.30/D30/AIN4 (io), 20 P2.31/D31/AIN5 (io), 21 P0.25 (io), 23 P0.27/AIN0/CAP0.1/MAT0.1 (io), 24 P1.17/TRACEPKT1 (io), 25 P0.28/AIN1/CAP0.2/MAT0.2 (io), 27 P3.29/BLS2/AIN6 (io), 28 P3.28/BLS3/AIN7 (io), 29 P3.27/WE (io), 30 P3.26/CS1 (io), 32 P0.29/AIN2/CAP0.3/MAT0.3 (io), 33 P0.30/AIN3/EINT3/CAP0.0 (io), 34 P1.16/TRACEPKT0 (io), 35 P3.25/CS2 (io), 36 P3.24/CS3 (io), 40 P3.23/A23/XCLK (io), 41 P3.22/A22 (io), 42 P0.0/TXD0/PWM1 (io), 43 P1.31/~{TRST} (io), 44 P3.21/A21 (io), 45 P3.20/A20 (io), 46 P3.19/A19 (io), 47 P3.18/A18 (io), 48 P3.17/A17 (io), 49 P0.1/RXD0/PWM3/EINT0 (io), 50 P0.2/SCL/CAP0.0 (io), 52 P1.26/RTCK (io), 53 P3.16/A16 (io), 55 P3.15/A15 (io), 56 P3.14/A14 (io), 58 P0.3/SDA/MAT0.0/EINT1 (io), 59 P0.4/SCK0/CAP0.1 (io), 60 P1.25/EXTIN0 (io), 61 P0.5/MISO0/MAT0.1 (io), 62 P3.13/A13 (io), 63 P3.12/A12 (io), 64 P3.11/A11 (io), 65 P3.10/A10 (io), 66 P3.9/A9 (io), 68 P0.6/MOSI0/CAP0.2 (io), 69 P0.7/SSEL0/PWM2/EINT2 (io), 70 P1.24/TRACECLK (io), 71 P3.8/A8 (io), 72 P3.7/A7 (io), 73 P3.6/A6 (io), 74 P3.5/A5 (io), 75 P0.8/TXD1/PWM4 (io), 76 P0.9/RXD1/PWM6/EINT3 (io), 78 P0.10/RTS1/CAP1.0 (io), 80 P3.4/A4 (io), 81 P3.3/A3 (io), 82 P1.23/PIPESTAT2 (io), 83 P0.11/CTS1/CAP1.1 (io), 84 P0.12/DSR1/MAT1.0 (io), 85 P0.13/DTR1/MAT1.1 (io), 86 P1.22/PIPESTAT1 (io), 87 P3.2/A2 (io), 88 P3.1/A1 (io), 89 P3.0/A0 (io), 90 P1.1/OE (io), 91 P1.0/CS0 (io), 92 P0.14/DCD1/EINT1 (io), 95 P1.21/PIPESTAT0 (io), 96 P3.31/BLS0 (io), 97 P3.30/BLS1 (io), 98 P2.0/D0 (io), 99 P0.15/RI1/EINT2 (io), 100 P0.16/EINT0/MAT0.2/CAP0.2 (io), 101 P0.17/CAP1.2/SCK1/MAT1.2 (io), 102 P1.20/TRACESYNC (io), 105 P2.1/D1 (io), 106 P2.2/D2 (io), 108 P2.3/D3 (io), 109 P2.4/D4 (io), 113 P1.30/TMS (io), 114 P2.5/D5 (io), 115 P2.6/D6 (io), 116 P2.7/D7 (io), 117 P2.8/D8 (io), 118 P2.9/D9 (io), 120 P2.10/D10 (io), 121 P0.18/CAP1.3/MISO1/MAT1.3 (io), 122 P0.19/MAT1.2/MOSI1/CAP1.2 (io), 123 P0.20/MAT1.3/SSEL1/EINT3 (io), 124 P2.11/D11 (io), 125 P2.12/D12 (io), 126 P1.29/TCK (io), 127 P2.13/D13 (io), 129 P2.14/D14 (io), 130 P2.15/D15 (io), 131 P2.16/D16 (io), 132 P2.17/D17 (io), 133 P2.18/D18 (io), 134 P2.19/D19 (io), 136 P2.20/D20 (io), 137 P2.21/D21 (io), 140 P1.28/TDI (io), 144 P1.27/TDO (io)
part B pins: 22 NC, 135 ~{RESET} (in), 141 XTAL2, 142 XTAL1
part C pins: 2 VDD(3V3) (power), 3 VSS (power), 9 VSS (power), 14 VDDA(3V3) (power), 26 VSS (power), 31 VDD(3V3) (power), 37 VDD(1V8) (power), 38 VSS (power), 39 VDD(3V3) (power), 51 VDD(3V3) (power), 54 VSS (power), 57 VDD(3V3) (power), 67 VSS (power), 77 VDD(3V3) (power), 79 VSS (power), 93 VSS (power), 94 VDD(3V3) (power), 103 VSS (power), 104 VDD(3V3) (power), 107 VSS (power), 110 VDD(1V8) (power), 111 VSS (power), 112 VDD(3V3) (power), 119 VDD(3V3) (power), 128 VSS (power), 138 VSSA(PLL) (power), 139 VSSA (power), 143 VDDA(1V8) (power)

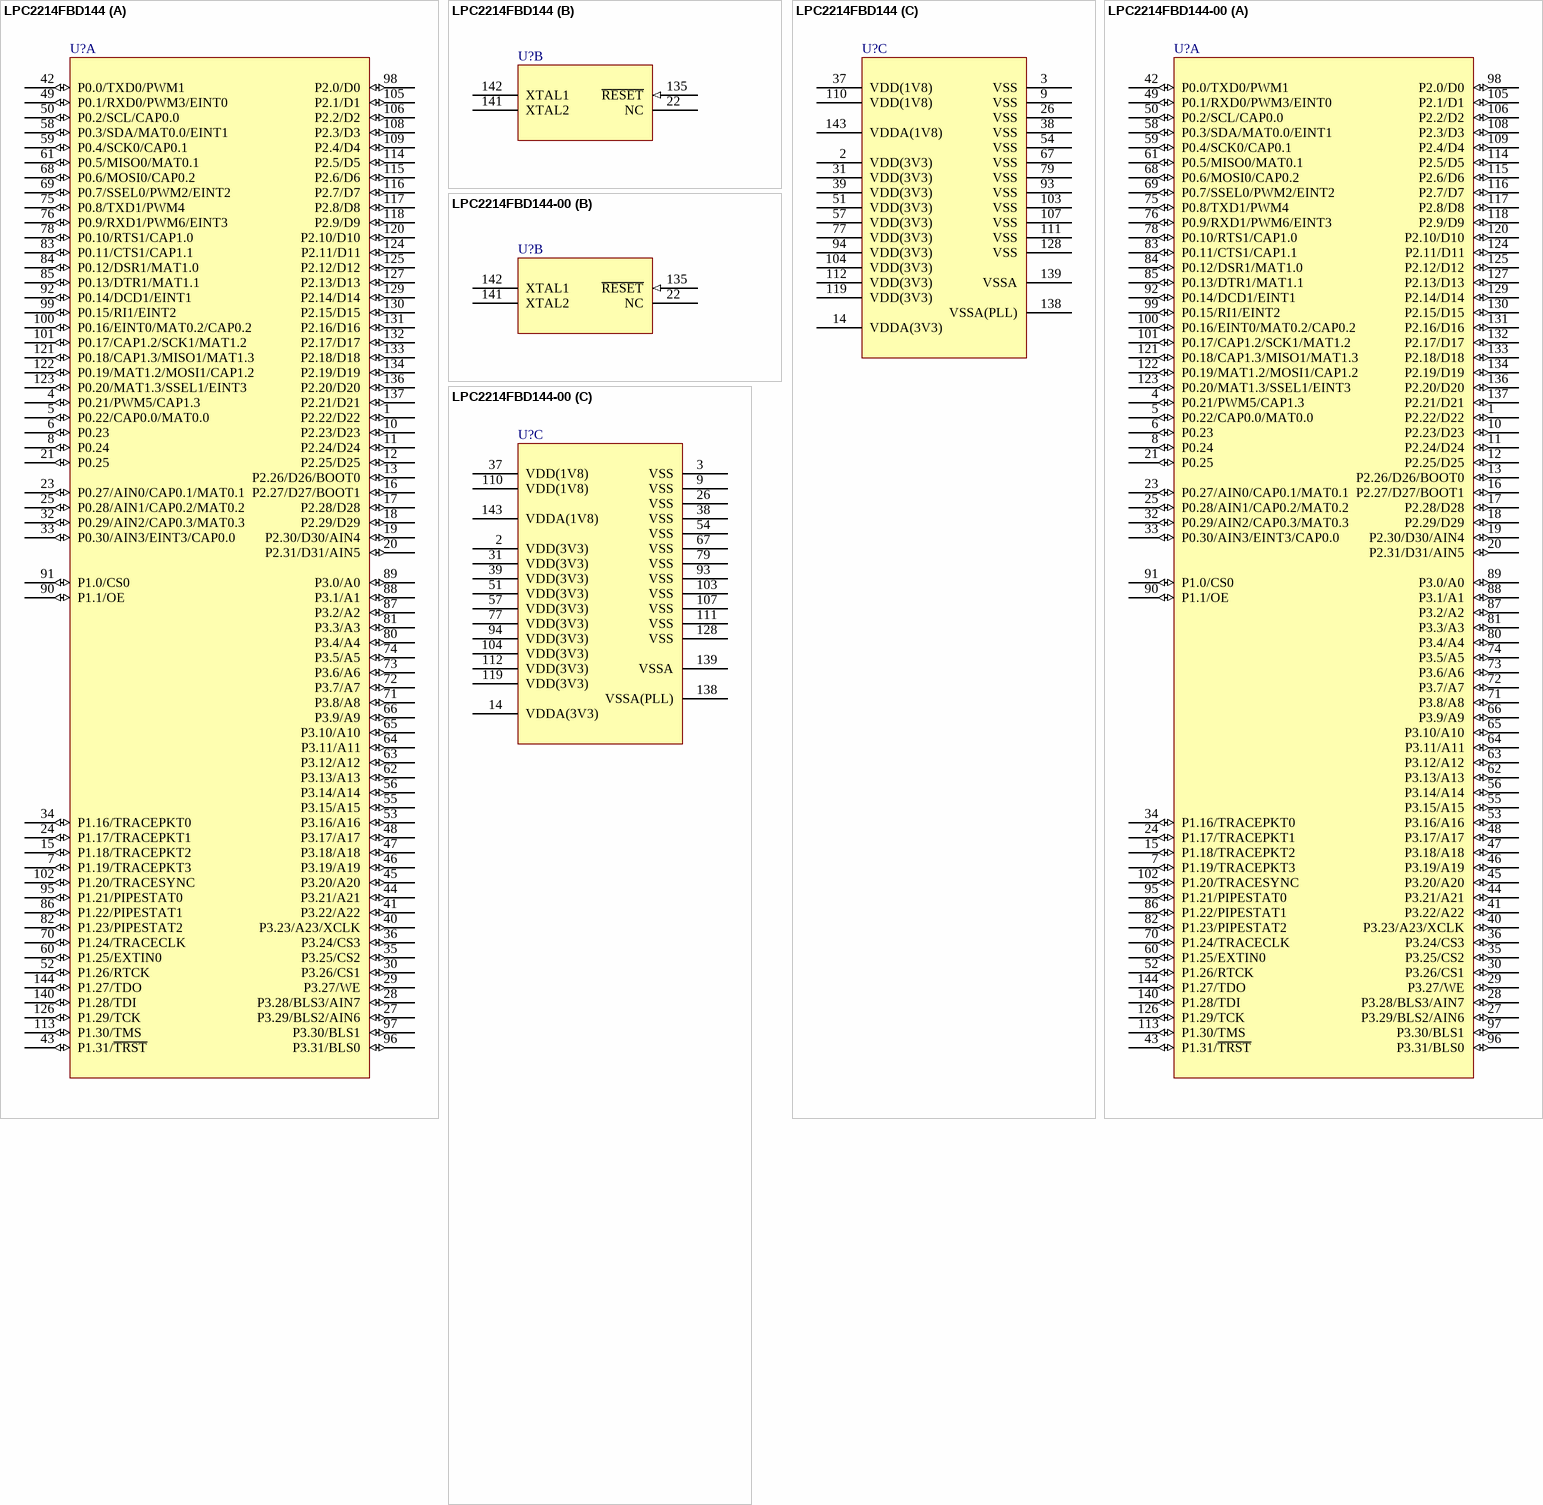
[diagram p13: symbols LPC2214FBD144 to LPC2214FBD144-00]

## LPC2214FBD144
designator U?
ARM7 16/32-Bit Microcontroller, 256KB Flash, 16KB RAM, 144-Lead LQFP; Code_IEC: 136E23; Published: 16-Oct-2006; DatasheetVersion: rev.04, Jul-2007; PackageVersion: Feb-2003; PackageReference: SOT486-1; Publisher: Altium Limited; PackageDescription: 144-Pin Plastic Low Profile Quad Flat Pack 0.5 mm Pitch; Code_JEDEC: MS-026; ComponentLink1Description: Manufacturer Link; ComponentLink1URL: http://www.nxp.com/; ComponentLink2Description: Datasheet; ComponentLink2URL: http://www.standardics.nxp.com/products/lpc2000/datasheet/lpc2212.lpc2214.pdf
footprint SOT486-1_N (Thin QFP, 144-Leads, Body 20x20mm, Pitch 0.5mm, IPC Medium Density)
footprint SOT486-1_L (Thin QFP, 144-Leads, Body 20x20mm, Pitch 0.5mm, IPC High Density)
footprint SOT486-1_M (Thin QFP, 144-Leads, Body 20x20mm, Pitch 0.5mm, IPC Low Density)
3D model LPC2214-QFP144 (144-Pin Plastic Low Profile Quad Flat Pack 0.5 mm Pitch)
part A pins: 1 P2.22/D22 (io), 4 P0.21/PWM5/CAP1.3 (io), 5 P0.22/CAP0.0/MAT0.0 (io), 6 P0.23 (io), 7 P1.19/TRACEPKT3 (io), 8 P0.24 (io), 10 P2.23/D23 (io), 11 P2.24/D24 (io), 12 P2.25/D25 (io), 13 P2.26/D26/BOOT0 (io), 15 P1.18/TRACEPKT2 (io), 16 P2.27/D27/BOOT1 (io), 17 P2.28/D28 (io), 18 P2.29/D29 (io), 19 P2.30/D30/AIN4 (io), 20 P2.31/D31/AIN5 (io), 21 P0.25 (io), 23 P0.27/AIN0/CAP0.1/MAT0.1 (io), 24 P1.17/TRACEPKT1 (io), 25 P0.28/AIN1/CAP0.2/MAT0.2 (io), 27 P3.29/BLS2/AIN6 (io), 28 P3.28/BLS3/AIN7 (io), 29 P3.27/WE (io), 30 P3.26/CS1 (io), 32 P0.29/AIN2/CAP0.3/MAT0.3 (io), 33 P0.30/AIN3/EINT3/CAP0.0 (io), 34 P1.16/TRACEPKT0 (io), 35 P3.25/CS2 (io), 36 P3.24/CS3 (io), 40 P3.23/A23/XCLK (io), 41 P3.22/A22 (io), 42 P0.0/TXD0/PWM1 (io), 43 P1.31/~{TRST} (io), 44 P3.21/A21 (io), 45 P3.20/A20 (io), 46 P3.19/A19 (io), 47 P3.18/A18 (io), 48 P3.17/A17 (io), 49 P0.1/RXD0/PWM3/EINT0 (io), 50 P0.2/SCL/CAP0.0 (io), 52 P1.26/RTCK (io), 53 P3.16/A16 (io), 55 P3.15/A15 (io), 56 P3.14/A14 (io), 58 P0.3/SDA/MAT0.0/EINT1 (io), 59 P0.4/SCK0/CAP0.1 (io), 60 P1.25/EXTIN0 (io), 61 P0.5/MISO0/MAT0.1 (io), 62 P3.13/A13 (io), 63 P3.12/A12 (io), 64 P3.11/A11 (io), 65 P3.10/A10 (io), 66 P3.9/A9 (io), 68 P0.6/MOSI0/CAP0.2 (io), 69 P0.7/SSEL0/PWM2/EINT2 (io), 70 P1.24/TRACECLK (io), 71 P3.8/A8 (io), 72 P3.7/A7 (io), 73 P3.6/A6 (io), 74 P3.5/A5 (io), 75 P0.8/TXD1/PWM4 (io), 76 P0.9/RXD1/PWM6/EINT3 (io), 78 P0.10/RTS1/CAP1.0 (io), 80 P3.4/A4 (io), 81 P3.3/A3 (io), 82 P1.23/PIPESTAT2 (io), 83 P0.11/CTS1/CAP1.1 (io), 84 P0.12/DSR1/MAT1.0 (io), 85 P0.13/DTR1/MAT1.1 (io), 86 P1.22/PIPESTAT1 (io), 87 P3.2/A2 (io), 88 P3.1/A1 (io), 89 P3.0/A0 (io), 90 P1.1/OE (io), 91 P1.0/CS0 (io), 92 P0.14/DCD1/EINT1 (io), 95 P1.21/PIPESTAT0 (io), 96 P3.31/BLS0 (io), 97 P3.30/BLS1 (io), 98 P2.0/D0 (io), 99 P0.15/RI1/EINT2 (io), 100 P0.16/EINT0/MAT0.2/CAP0.2 (io), 101 P0.17/CAP1.2/SCK1/MAT1.2 (io), 102 P1.20/TRACESYNC (io), 105 P2.1/D1 (io), 106 P2.2/D2 (io), 108 P2.3/D3 (io), 109 P2.4/D4 (io), 113 P1.30/TMS (io), 114 P2.5/D5 (io), 115 P2.6/D6 (io), 116 P2.7/D7 (io), 117 P2.8/D8 (io), 118 P2.9/D9 (io), 120 P2.10/D10 (io), 121 P0.18/CAP1.3/MISO1/MAT1.3 (io), 122 P0.19/MAT1.2/MOSI1/CAP1.2 (io), 123 P0.20/MAT1.3/SSEL1/EINT3 (io), 124 P2.11/D11 (io), 125 P2.12/D12 (io), 126 P1.29/TCK (io), 127 P2.13/D13 (io), 129 P2.14/D14 (io), 130 P2.15/D15 (io), 131 P2.16/D16 (io), 132 P2.17/D17 (io), 133 P2.18/D18 (io), 134 P2.19/D19 (io), 136 P2.20/D20 (io), 137 P2.21/D21 (io), 140 P1.28/TDI (io), 144 P1.27/TDO (io)
part B pins: 22 NC, 135 ~{RESET} (in), 141 XTAL2, 142 XTAL1
part C pins: 2 VDD(3V3) (power), 3 VSS (power), 9 VSS (power), 14 VDDA(3V3) (power), 26 VSS (power), 31 VDD(3V3) (power), 37 VDD(1V8) (power), 38 VSS (power), 39 VDD(3V3) (power), 51 VDD(3V3) (power), 54 VSS (power), 57 VDD(3V3) (power), 67 VSS (power), 77 VDD(3V3) (power), 79 VSS (power), 93 VSS (power), 94 VDD(3V3) (power), 103 VSS (power), 104 VDD(3V3) (power), 107 VSS (power), 110 VDD(1V8) (power), 111 VSS (power), 112 VDD(3V3) (power), 119 VDD(3V3) (power), 128 VSS (power), 138 VSSA(PLL) (power), 139 VSSA (power), 143 VDDA(1V8) (power)

## LPC2214FBD144-00
designator U?
ARM7 16/32-Bit Microcontroller, 256KB Flash, 16KB RAM, 144-Lead LQFP; Code_IEC: 136E23; Published: 16-Oct-2006; DatasheetVersion: rev.04, Jul-2007; PackageVersion: Feb-2003; PackageReference: SOT486-1; Publisher: Altium Limited; PackageDescription: 144-Pin Plastic Low Profile Quad Flat Pack 0.5 mm Pitch; Code_JEDEC: MS-026; ComponentLink1Description: Manufacturer Link; ComponentLink1URL: http://www.nxp.com/; ComponentLink2Description: Datasheet; ComponentLink2URL: http://www.standardics.nxp.com/products/lpc2000/datasheet/lpc2212.lpc2214.pdf
footprint SOT486-1_N (Thin QFP, 144-Leads, Body 20x20mm, Pitch 0.5mm, IPC Medium Density)
footprint SOT486-1_L (Thin QFP, 144-Leads, Body 20x20mm, Pitch 0.5mm, IPC High Density)
footprint SOT486-1_M (Thin QFP, 144-Leads, Body 20x20mm, Pitch 0.5mm, IPC Low Density)
3D model LPC2214-QFP144 (144-Pin Plastic Low Profile Quad Flat Pack 0.5 mm Pitch)
part A pins: 1 P2.22/D22 (io), 4 P0.21/PWM5/CAP1.3 (io), 5 P0.22/CAP0.0/MAT0.0 (io), 6 P0.23 (io), 7 P1.19/TRACEPKT3 (io), 8 P0.24 (io), 10 P2.23/D23 (io), 11 P2.24/D24 (io), 12 P2.25/D25 (io), 13 P2.26/D26/BOOT0 (io), 15 P1.18/TRACEPKT2 (io), 16 P2.27/D27/BOOT1 (io), 17 P2.28/D28 (io), 18 P2.29/D29 (io), 19 P2.30/D30/AIN4 (io), 20 P2.31/D31/AIN5 (io), 21 P0.25 (io), 23 P0.27/AIN0/CAP0.1/MAT0.1 (io), 24 P1.17/TRACEPKT1 (io), 25 P0.28/AIN1/CAP0.2/MAT0.2 (io), 27 P3.29/BLS2/AIN6 (io), 28 P3.28/BLS3/AIN7 (io), 29 P3.27/WE (io), 30 P3.26/CS1 (io), 32 P0.29/AIN2/CAP0.3/MAT0.3 (io), 33 P0.30/AIN3/EINT3/CAP0.0 (io), 34 P1.16/TRACEPKT0 (io), 35 P3.25/CS2 (io), 36 P3.24/CS3 (io), 40 P3.23/A23/XCLK (io), 41 P3.22/A22 (io), 42 P0.0/TXD0/PWM1 (io), 43 P1.31/~{TRST} (io), 44 P3.21/A21 (io), 45 P3.20/A20 (io), 46 P3.19/A19 (io), 47 P3.18/A18 (io), 48 P3.17/A17 (io), 49 P0.1/RXD0/PWM3/EINT0 (io), 50 P0.2/SCL/CAP0.0 (io), 52 P1.26/RTCK (io), 53 P3.16/A16 (io), 55 P3.15/A15 (io), 56 P3.14/A14 (io), 58 P0.3/SDA/MAT0.0/EINT1 (io), 59 P0.4/SCK0/CAP0.1 (io), 60 P1.25/EXTIN0 (io), 61 P0.5/MISO0/MAT0.1 (io), 62 P3.13/A13 (io), 63 P3.12/A12 (io), 64 P3.11/A11 (io), 65 P3.10/A10 (io), 66 P3.9/A9 (io), 68 P0.6/MOSI0/CAP0.2 (io), 69 P0.7/SSEL0/PWM2/EINT2 (io), 70 P1.24/TRACECLK (io), 71 P3.8/A8 (io), 72 P3.7/A7 (io), 73 P3.6/A6 (io), 74 P3.5/A5 (io), 75 P0.8/TXD1/PWM4 (io), 76 P0.9/RXD1/PWM6/EINT3 (io), 78 P0.10/RTS1/CAP1.0 (io), 80 P3.4/A4 (io), 81 P3.3/A3 (io), 82 P1.23/PIPESTAT2 (io), 83 P0.11/CTS1/CAP1.1 (io), 84 P0.12/DSR1/MAT1.0 (io), 85 P0.13/DTR1/MAT1.1 (io), 86 P1.22/PIPESTAT1 (io), 87 P3.2/A2 (io), 88 P3.1/A1 (io), 89 P3.0/A0 (io), 90 P1.1/OE (io), 91 P1.0/CS0 (io), 92 P0.14/DCD1/EINT1 (io), 95 P1.21/PIPESTAT0 (io), 96 P3.31/BLS0 (io), 97 P3.30/BLS1 (io), 98 P2.0/D0 (io), 99 P0.15/RI1/EINT2 (io), 100 P0.16/EINT0/MAT0.2/CAP0.2 (io), 101 P0.17/CAP1.2/SCK1/MAT1.2 (io), 102 P1.20/TRACESYNC (io), 105 P2.1/D1 (io), 106 P2.2/D2 (io), 108 P2.3/D3 (io), 109 P2.4/D4 (io), 113 P1.30/TMS (io), 114 P2.5/D5 (io), 115 P2.6/D6 (io), 116 P2.7/D7 (io), 117 P2.8/D8 (io), 118 P2.9/D9 (io), 120 P2.10/D10 (io), 121 P0.18/CAP1.3/MISO1/MAT1.3 (io), 122 P0.19/MAT1.2/MOSI1/CAP1.2 (io), 123 P0.20/MAT1.3/SSEL1/EINT3 (io), 124 P2.11/D11 (io), 125 P2.12/D12 (io), 126 P1.29/TCK (io), 127 P2.13/D13 (io), 129 P2.14/D14 (io), 130 P2.15/D15 (io), 131 P2.16/D16 (io), 132 P2.17/D17 (io), 133 P2.18/D18 (io), 134 P2.19/D19 (io), 136 P2.20/D20 (io), 137 P2.21/D21 (io), 140 P1.28/TDI (io), 144 P1.27/TDO (io)
part B pins: 22 NC, 135 ~{RESET} (in), 141 XTAL2, 142 XTAL1
part C pins: 2 VDD(3V3) (power), 3 VSS (power), 9 VSS (power), 14 VDDA(3V3) (power), 26 VSS (power), 31 VDD(3V3) (power), 37 VDD(1V8) (power), 38 VSS (power), 39 VDD(3V3) (power), 51 VDD(3V3) (power), 54 VSS (power), 57 VDD(3V3) (power), 67 VSS (power), 77 VDD(3V3) (power), 79 VSS (power), 93 VSS (power), 94 VDD(3V3) (power), 103 VSS (power), 104 VDD(3V3) (power), 107 VSS (power), 110 VDD(1V8) (power), 111 VSS (power), 112 VDD(3V3) (power), 119 VDD(3V3) (power), 128 VSS (power), 138 VSSA(PLL) (power), 139 VSSA (power), 143 VDDA(1V8) (power)

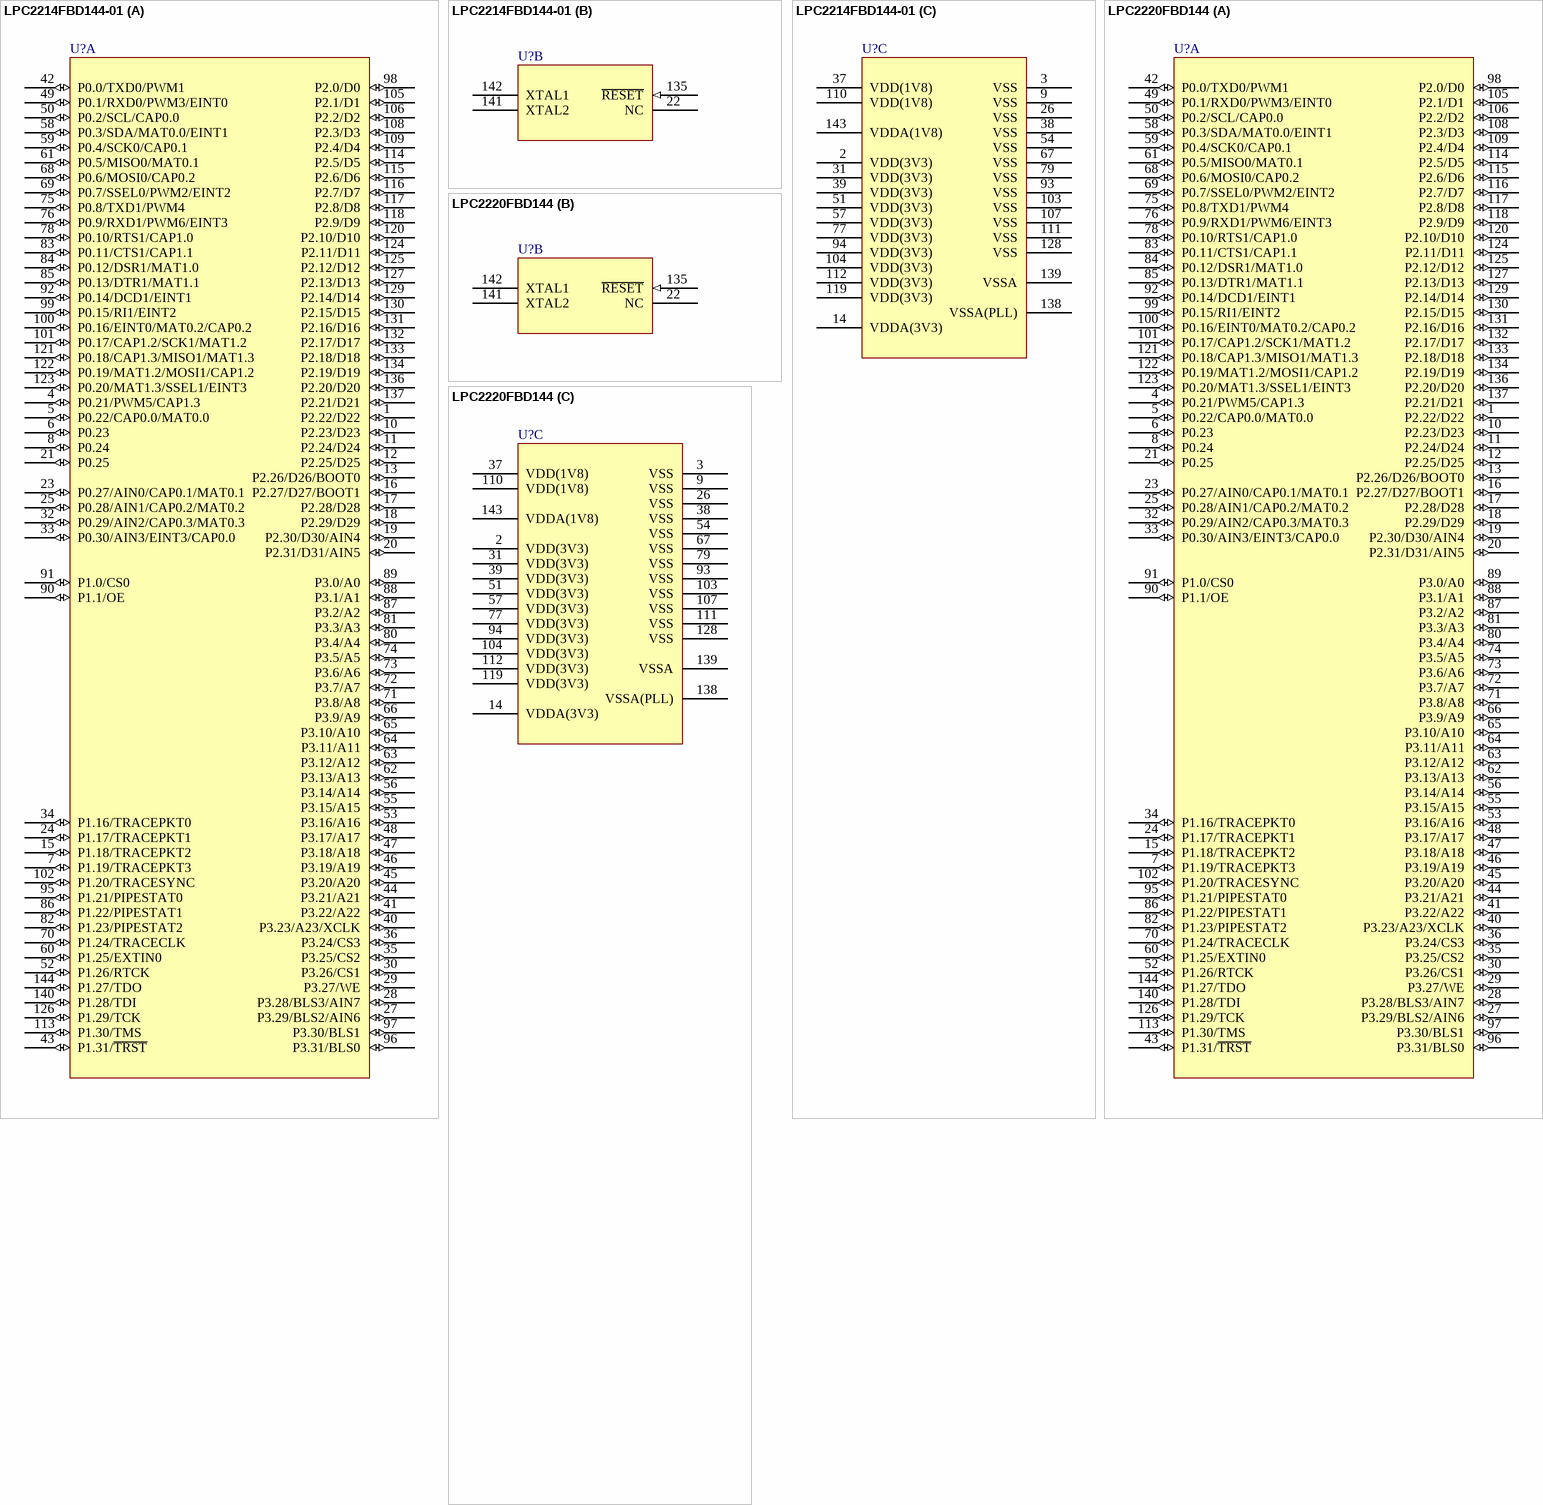
[diagram p14: symbols LPC2214FBD144-01 to LPC2220FBD144]

## LPC2214FBD144-01
designator U?
ARM7 16/32-Bit Microcontroller, 256KB Flash, 16KB RAM, Fast GPIO/SSP/Enhanced UART, ADC, Timer, 144-Lead LQFP; Code_IEC: 136E23; Published: 17-Aug-2007; DatasheetVersion: rev.04, Jul-2007; PackageVersion: Feb-2003; PackageReference: SOT486-1; Publisher: Altium Limited; PackageDescription: 144-Pin Plastic Low Profile Quad Flat Pack 0.5 mm Pitch; Code_JEDEC: MS-026; ComponentLink1Description: Manufacturer Link; ComponentLink1URL: http://www.nxp.com/; ComponentLink2Description: Datasheet; ComponentLink2URL: http://www.standardics.nxp.com/products/lpc2000/datasheet/lpc2212.lpc2214.pdf
footprint SOT486-1_N (Thin QFP, 144-Leads, Body 20x20mm, Pitch 0.5mm, IPC Medium Density)
footprint SOT486-1_L (Thin QFP, 144-Leads, Body 20x20mm, Pitch 0.5mm, IPC High Density)
footprint SOT486-1_M (Thin QFP, 144-Leads, Body 20x20mm, Pitch 0.5mm, IPC Low Density)
3D model LPC2214-QFP144 (144-Pin Plastic Low Profile Quad Flat Pack 0.5 mm Pitch)
part A pins: 1 P2.22/D22 (io), 4 P0.21/PWM5/CAP1.3 (io), 5 P0.22/CAP0.0/MAT0.0 (io), 6 P0.23 (io), 7 P1.19/TRACEPKT3 (io), 8 P0.24 (io), 10 P2.23/D23 (io), 11 P2.24/D24 (io), 12 P2.25/D25 (io), 13 P2.26/D26/BOOT0 (io), 15 P1.18/TRACEPKT2 (io), 16 P2.27/D27/BOOT1 (io), 17 P2.28/D28 (io), 18 P2.29/D29 (io), 19 P2.30/D30/AIN4 (io), 20 P2.31/D31/AIN5 (io), 21 P0.25 (io), 23 P0.27/AIN0/CAP0.1/MAT0.1 (io), 24 P1.17/TRACEPKT1 (io), 25 P0.28/AIN1/CAP0.2/MAT0.2 (io), 27 P3.29/BLS2/AIN6 (io), 28 P3.28/BLS3/AIN7 (io), 29 P3.27/WE (io), 30 P3.26/CS1 (io), 32 P0.29/AIN2/CAP0.3/MAT0.3 (io), 33 P0.30/AIN3/EINT3/CAP0.0 (io), 34 P1.16/TRACEPKT0 (io), 35 P3.25/CS2 (io), 36 P3.24/CS3 (io), 40 P3.23/A23/XCLK (io), 41 P3.22/A22 (io), 42 P0.0/TXD0/PWM1 (io), 43 P1.31/~{TRST} (io), 44 P3.21/A21 (io), 45 P3.20/A20 (io), 46 P3.19/A19 (io), 47 P3.18/A18 (io), 48 P3.17/A17 (io), 49 P0.1/RXD0/PWM3/EINT0 (io), 50 P0.2/SCL/CAP0.0 (io), 52 P1.26/RTCK (io), 53 P3.16/A16 (io), 55 P3.15/A15 (io), 56 P3.14/A14 (io), 58 P0.3/SDA/MAT0.0/EINT1 (io), 59 P0.4/SCK0/CAP0.1 (io), 60 P1.25/EXTIN0 (io), 61 P0.5/MISO0/MAT0.1 (io), 62 P3.13/A13 (io), 63 P3.12/A12 (io), 64 P3.11/A11 (io), 65 P3.10/A10 (io), 66 P3.9/A9 (io), 68 P0.6/MOSI0/CAP0.2 (io), 69 P0.7/SSEL0/PWM2/EINT2 (io), 70 P1.24/TRACECLK (io), 71 P3.8/A8 (io), 72 P3.7/A7 (io), 73 P3.6/A6 (io), 74 P3.5/A5 (io), 75 P0.8/TXD1/PWM4 (io), 76 P0.9/RXD1/PWM6/EINT3 (io), 78 P0.10/RTS1/CAP1.0 (io), 80 P3.4/A4 (io), 81 P3.3/A3 (io), 82 P1.23/PIPESTAT2 (io), 83 P0.11/CTS1/CAP1.1 (io), 84 P0.12/DSR1/MAT1.0 (io), 85 P0.13/DTR1/MAT1.1 (io), 86 P1.22/PIPESTAT1 (io), 87 P3.2/A2 (io), 88 P3.1/A1 (io), 89 P3.0/A0 (io), 90 P1.1/OE (io), 91 P1.0/CS0 (io), 92 P0.14/DCD1/EINT1 (io), 95 P1.21/PIPESTAT0 (io), 96 P3.31/BLS0 (io), 97 P3.30/BLS1 (io), 98 P2.0/D0 (io), 99 P0.15/RI1/EINT2 (io), 100 P0.16/EINT0/MAT0.2/CAP0.2 (io), 101 P0.17/CAP1.2/SCK1/MAT1.2 (io), 102 P1.20/TRACESYNC (io), 105 P2.1/D1 (io), 106 P2.2/D2 (io), 108 P2.3/D3 (io), 109 P2.4/D4 (io), 113 P1.30/TMS (io), 114 P2.5/D5 (io), 115 P2.6/D6 (io), 116 P2.7/D7 (io), 117 P2.8/D8 (io), 118 P2.9/D9 (io), 120 P2.10/D10 (io), 121 P0.18/CAP1.3/MISO1/MAT1.3 (io), 122 P0.19/MAT1.2/MOSI1/CAP1.2 (io), 123 P0.20/MAT1.3/SSEL1/EINT3 (io), 124 P2.11/D11 (io), 125 P2.12/D12 (io), 126 P1.29/TCK (io), 127 P2.13/D13 (io), 129 P2.14/D14 (io), 130 P2.15/D15 (io), 131 P2.16/D16 (io), 132 P2.17/D17 (io), 133 P2.18/D18 (io), 134 P2.19/D19 (io), 136 P2.20/D20 (io), 137 P2.21/D21 (io), 140 P1.28/TDI (io), 144 P1.27/TDO (io)
part B pins: 22 NC, 135 ~{RESET} (in), 141 XTAL2, 142 XTAL1
part C pins: 2 VDD(3V3) (power), 3 VSS (power), 9 VSS (power), 14 VDDA(3V3) (power), 26 VSS (power), 31 VDD(3V3) (power), 37 VDD(1V8) (power), 38 VSS (power), 39 VDD(3V3) (power), 51 VDD(3V3) (power), 54 VSS (power), 57 VDD(3V3) (power), 67 VSS (power), 77 VDD(3V3) (power), 79 VSS (power), 93 VSS (power), 94 VDD(3V3) (power), 103 VSS (power), 104 VDD(3V3) (power), 107 VSS (power), 110 VDD(1V8) (power), 111 VSS (power), 112 VDD(3V3) (power), 119 VDD(3V3) (power), 128 VSS (power), 138 VSSA(PLL) (power), 139 VSSA (power), 143 VDDA(1V8) (power)

## LPC2220FBD144
designator U?
ARM7 16/32-Bit Microcontroller, 64KB RAM, 144-Lead LQFP; Code_IEC: 136E23; Published: 16-Oct-2006; DatasheetVersion: rev.03, Feb-2007; PackageVersion: Feb-2003; PackageReference: SOT486-1; Publisher: Altium Limited; PackageDescription: 144-Pin Plastic Low Profile Quad Flat Pack 0.5 mm Pitch; Code_JEDEC: MS-026; ComponentLink1Description: Manufacturer Link; ComponentLink1URL: http://www.nxp.com/; ComponentLink2Description: Datasheet; ComponentLink2URL: http://www.standardics.nxp.com/products/lpc2000/datasheet/lpc2210.lpc2220.pdf
footprint SOT486-1_N (Thin QFP, 144-Leads, Body 20x20mm, Pitch 0.5mm, IPC Medium Density)
footprint SOT486-1_L (Thin QFP, 144-Leads, Body 20x20mm, Pitch 0.5mm, IPC High Density)
footprint SOT486-1_M (Thin QFP, 144-Leads, Body 20x20mm, Pitch 0.5mm, IPC Low Density)
3D model LPC2220-QFP144 (144-Pin Plastic Low Profile Quad Flat Pack 0.5 mm Pitch)
part A pins: 1 P2.22/D22 (io), 4 P0.21/PWM5/CAP1.3 (io), 5 P0.22/CAP0.0/MAT0.0 (io), 6 P0.23 (io), 7 P1.19/TRACEPKT3 (io), 8 P0.24 (io), 10 P2.23/D23 (io), 11 P2.24/D24 (io), 12 P2.25/D25 (io), 13 P2.26/D26/BOOT0 (io), 15 P1.18/TRACEPKT2 (io), 16 P2.27/D27/BOOT1 (io), 17 P2.28/D28 (io), 18 P2.29/D29 (io), 19 P2.30/D30/AIN4 (io), 20 P2.31/D31/AIN5 (io), 21 P0.25 (io), 23 P0.27/AIN0/CAP0.1/MAT0.1 (io), 24 P1.17/TRACEPKT1 (io), 25 P0.28/AIN1/CAP0.2/MAT0.2 (io), 27 P3.29/BLS2/AIN6 (io), 28 P3.28/BLS3/AIN7 (io), 29 P3.27/WE (io), 30 P3.26/CS1 (io), 32 P0.29/AIN2/CAP0.3/MAT0.3 (io), 33 P0.30/AIN3/EINT3/CAP0.0 (io), 34 P1.16/TRACEPKT0 (io), 35 P3.25/CS2 (io), 36 P3.24/CS3 (io), 40 P3.23/A23/XCLK (io), 41 P3.22/A22 (io), 42 P0.0/TXD0/PWM1 (io), 43 P1.31/~{TRST} (io), 44 P3.21/A21 (io), 45 P3.20/A20 (io), 46 P3.19/A19 (io), 47 P3.18/A18 (io), 48 P3.17/A17 (io), 49 P0.1/RXD0/PWM3/EINT0 (io), 50 P0.2/SCL/CAP0.0 (io), 52 P1.26/RTCK (io), 53 P3.16/A16 (io), 55 P3.15/A15 (io), 56 P3.14/A14 (io), 58 P0.3/SDA/MAT0.0/EINT1 (io), 59 P0.4/SCK0/CAP0.1 (io), 60 P1.25/EXTIN0 (io), 61 P0.5/MISO0/MAT0.1 (io), 62 P3.13/A13 (io), 63 P3.12/A12 (io), 64 P3.11/A11 (io), 65 P3.10/A10 (io), 66 P3.9/A9 (io), 68 P0.6/MOSI0/CAP0.2 (io), 69 P0.7/SSEL0/PWM2/EINT2 (io), 70 P1.24/TRACECLK (io), 71 P3.8/A8 (io), 72 P3.7/A7 (io), 73 P3.6/A6 (io), 74 P3.5/A5 (io), 75 P0.8/TXD1/PWM4 (io), 76 P0.9/RXD1/PWM6/EINT3 (io), 78 P0.10/RTS1/CAP1.0 (io), 80 P3.4/A4 (io), 81 P3.3/A3 (io), 82 P1.23/PIPESTAT2 (io), 83 P0.11/CTS1/CAP1.1 (io), 84 P0.12/DSR1/MAT1.0 (io), 85 P0.13/DTR1/MAT1.1 (io), 86 P1.22/PIPESTAT1 (io), 87 P3.2/A2 (io), 88 P3.1/A1 (io), 89 P3.0/A0 (io), 90 P1.1/OE (io), 91 P1.0/CS0 (io), 92 P0.14/DCD1/EINT1 (io), 95 P1.21/PIPESTAT0 (io), 96 P3.31/BLS0 (io), 97 P3.30/BLS1 (io), 98 P2.0/D0 (io), 99 P0.15/RI1/EINT2 (io), 100 P0.16/EINT0/MAT0.2/CAP0.2 (io), 101 P0.17/CAP1.2/SCK1/MAT1.2 (io), 102 P1.20/TRACESYNC (io), 105 P2.1/D1 (io), 106 P2.2/D2 (io), 108 P2.3/D3 (io), 109 P2.4/D4 (io), 113 P1.30/TMS (io), 114 P2.5/D5 (io), 115 P2.6/D6 (io), 116 P2.7/D7 (io), 117 P2.8/D8 (io), 118 P2.9/D9 (io), 120 P2.10/D10 (io), 121 P0.18/CAP1.3/MISO1/MAT1.3 (io), 122 P0.19/MAT1.2/MOSI1/CAP1.2 (io), 123 P0.20/MAT1.3/SSEL1/EINT3 (io), 124 P2.11/D11 (io), 125 P2.12/D12 (io), 126 P1.29/TCK (io), 127 P2.13/D13 (io), 129 P2.14/D14 (io), 130 P2.15/D15 (io), 131 P2.16/D16 (io), 132 P2.17/D17 (io), 133 P2.18/D18 (io), 134 P2.19/D19 (io), 136 P2.20/D20 (io), 137 P2.21/D21 (io), 140 P1.28/TDI (io), 144 P1.27/TDO (io)
part B pins: 22 NC, 135 ~{RESET} (in), 141 XTAL2, 142 XTAL1
part C pins: 2 VDD(3V3) (power), 3 VSS (power), 9 VSS (power), 14 VDDA(3V3) (power), 26 VSS (power), 31 VDD(3V3) (power), 37 VDD(1V8) (power), 38 VSS (power), 39 VDD(3V3) (power), 51 VDD(3V3) (power), 54 VSS (power), 57 VDD(3V3) (power), 67 VSS (power), 77 VDD(3V3) (power), 79 VSS (power), 93 VSS (power), 94 VDD(3V3) (power), 103 VSS (power), 104 VDD(3V3) (power), 107 VSS (power), 110 VDD(1V8) (power), 111 VSS (power), 112 VDD(3V3) (power), 119 VDD(3V3) (power), 128 VSS (power), 138 VSSA(PLL) (power), 139 VSSA (power), 143 VDDA(1V8) (power)

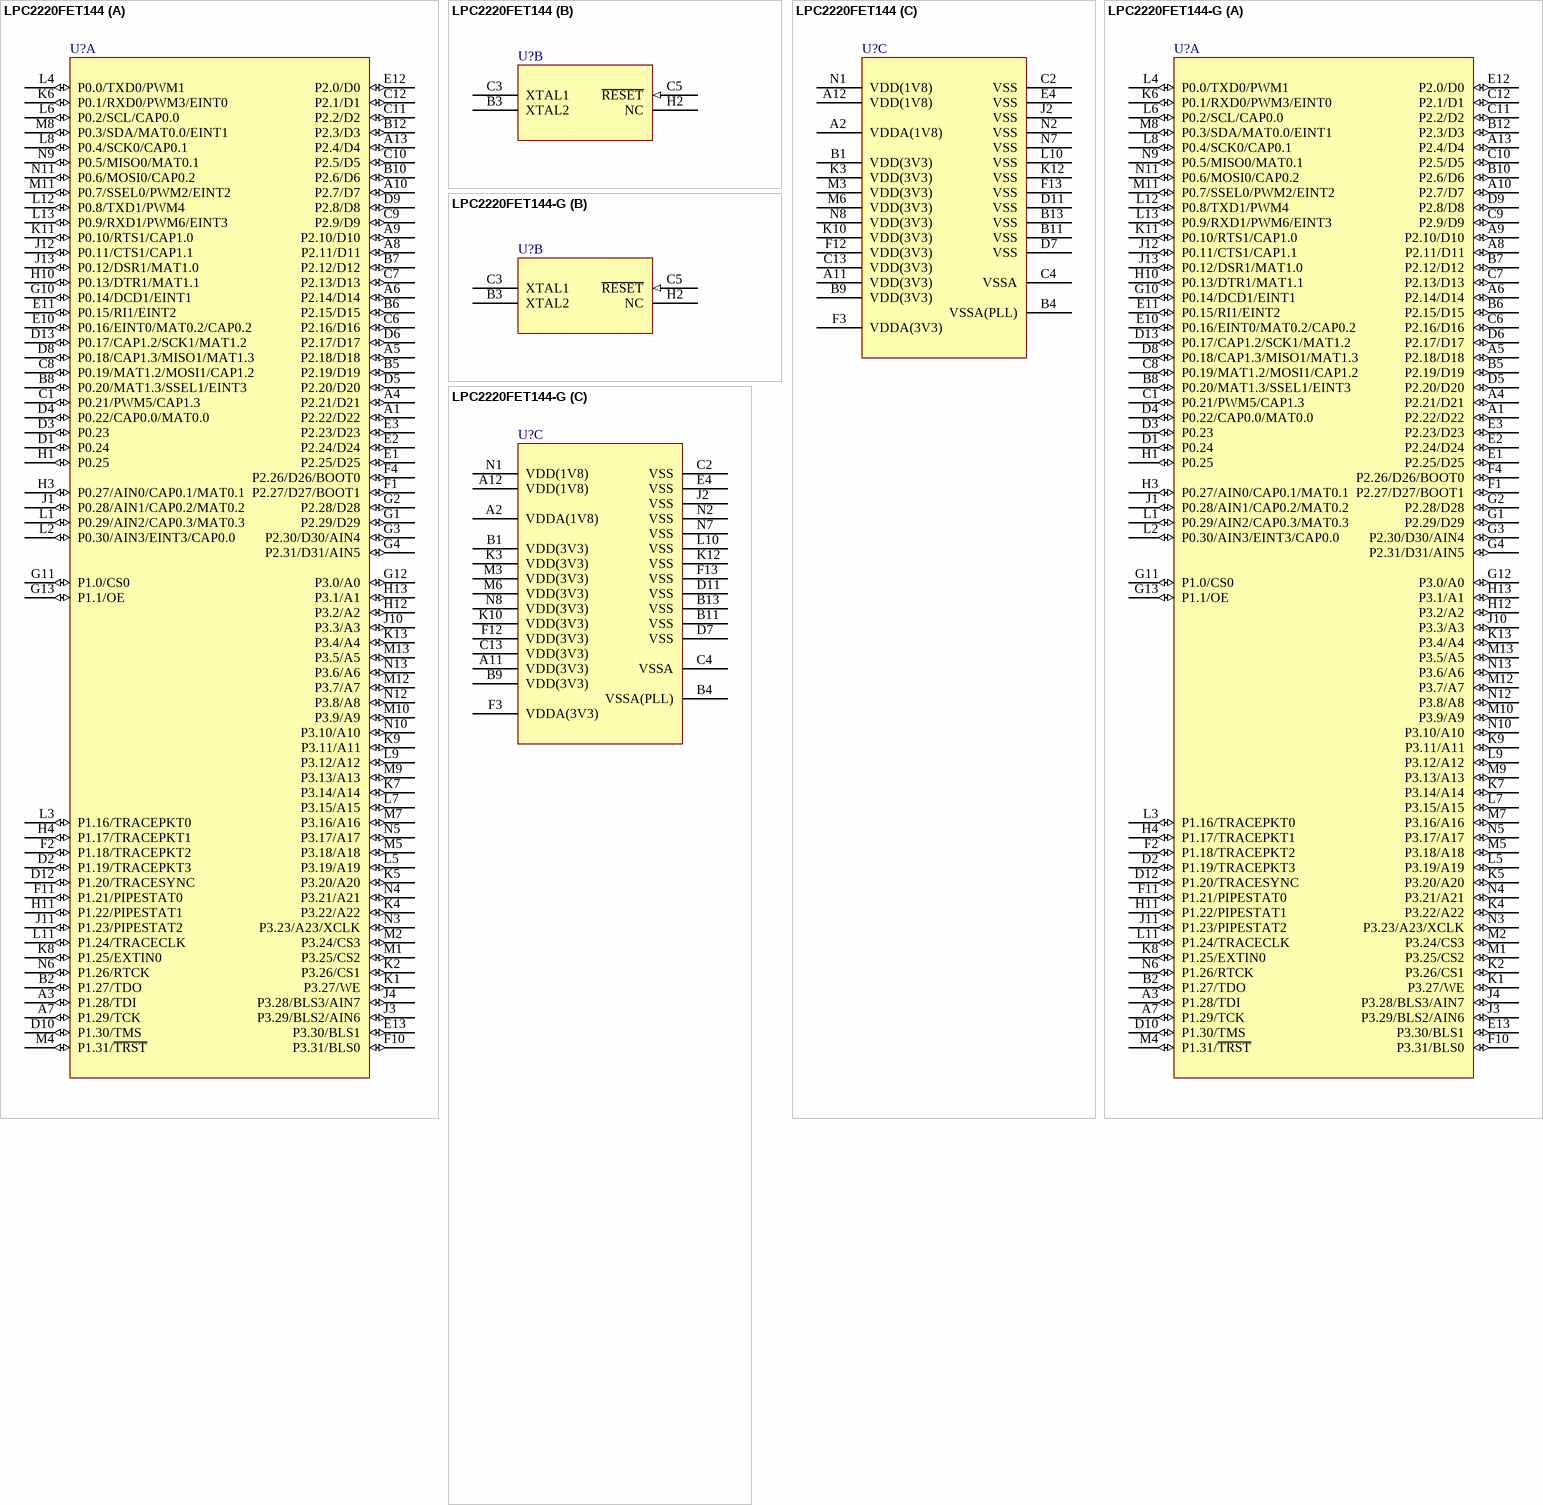
[diagram p15: symbols LPC2220FET144 to LPC2220FET144-G]